# Altium integrated library CDE_Library.IntLib: 6171 symbols (part 1 of 25)
Pins are listed as number, name and electrical type; pins without a type are passive.

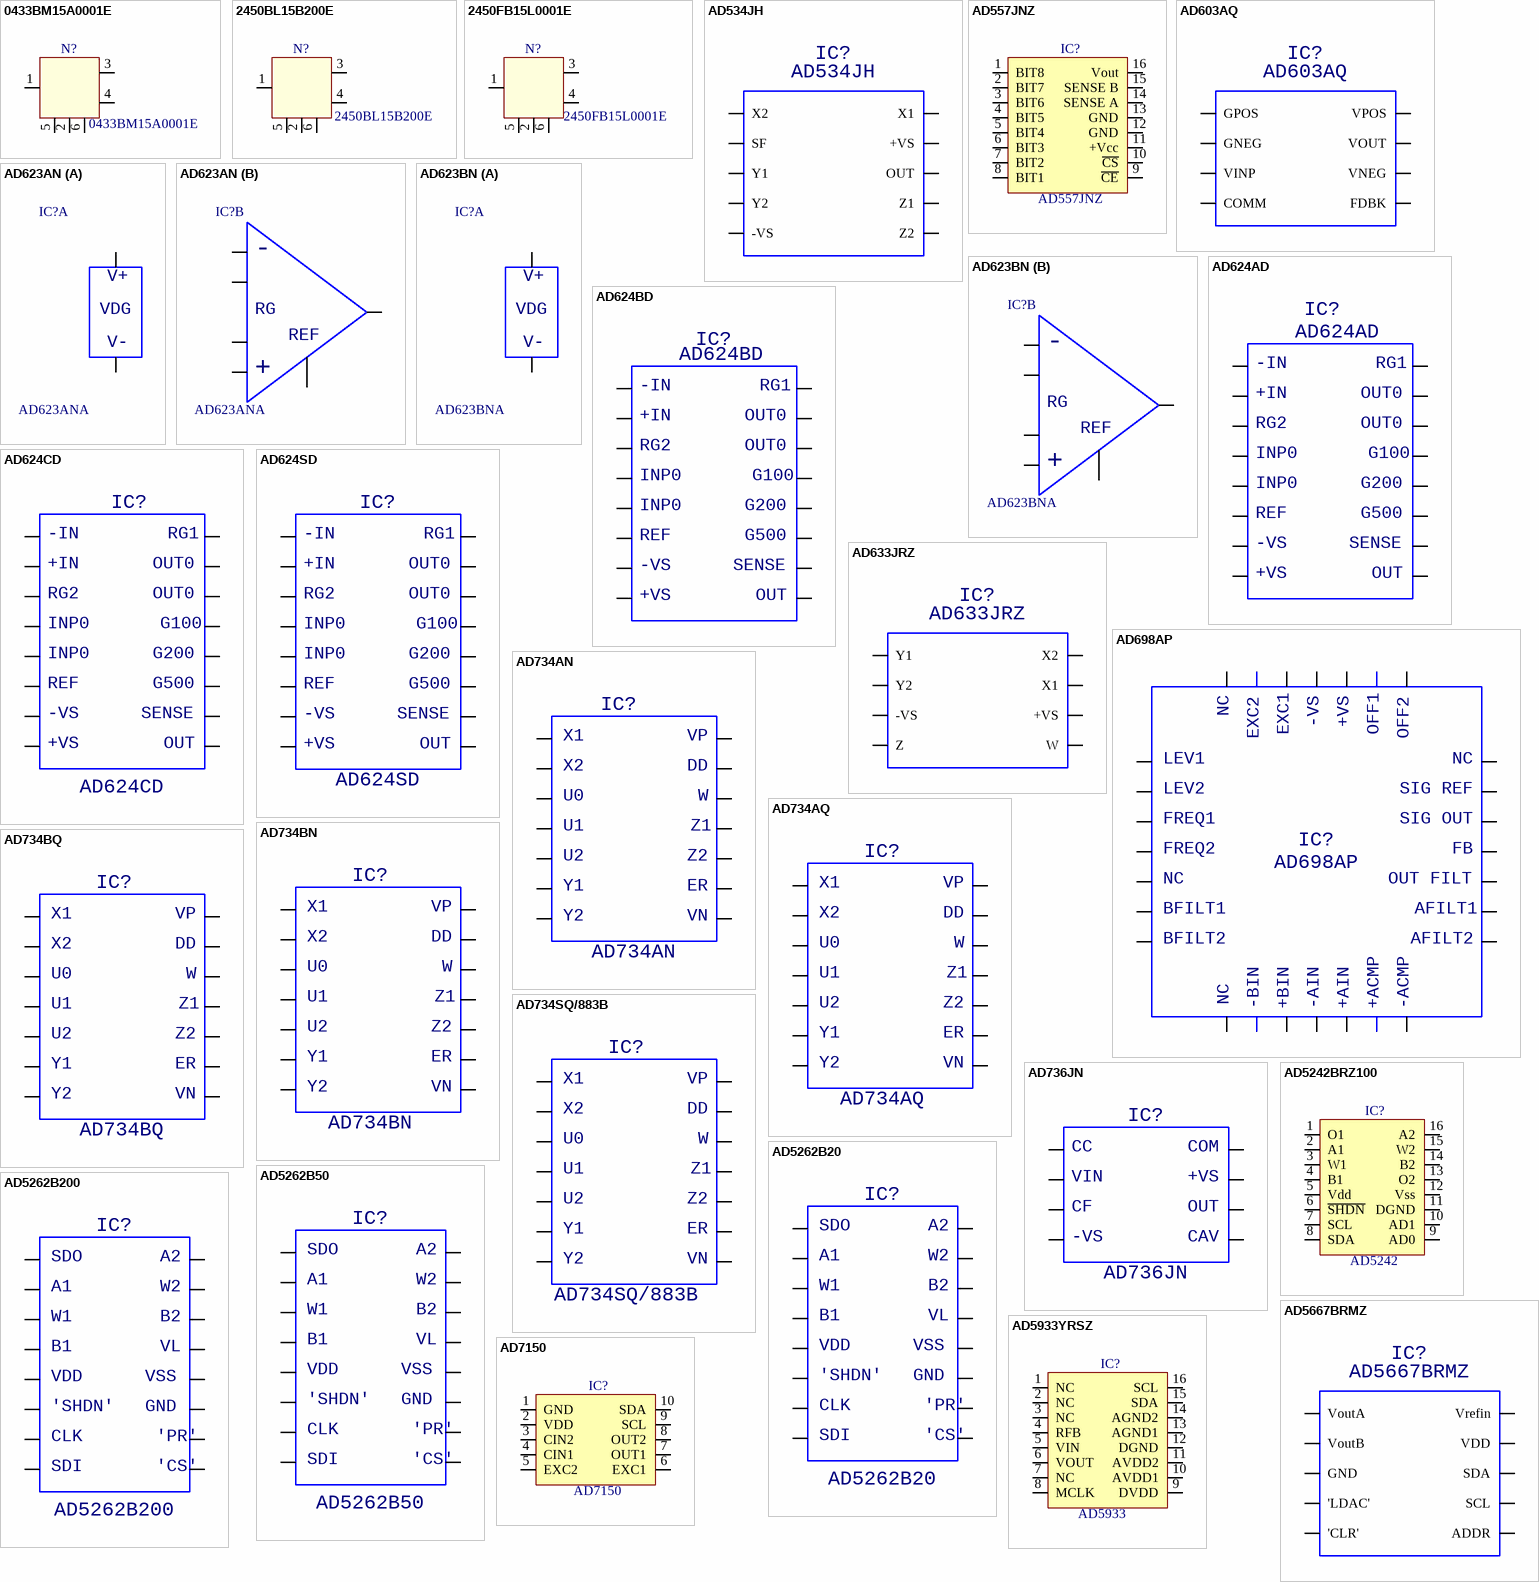
[diagram p0: symbols 0433BM15A0001E to AD7150]

## 0433BM15A0001E
designator N?
2.45 GHz Harmonic Filter-Balun
footprint 2450FB15L0001E (Balun Filter, 2.45GHZ)
pins: 1 Unbal, 2 DC+RF GND, 3 Bal1, 4 Bal2, 5 GND, 6 GND

## 2450BL15B200E
designator N?
2.45 GHz Harmonic Filter-Balun
footprint 2450FB15L0001E (Balun Filter, 2.45GHZ)
pins: 1 Unbal, 2 DC+RF GND, 3 Bal1, 4 Bal2, 5 GND, 6 GND

## 2450FB15L0001E
designator N?
2.45 GHz Harmonic Filter-Balun
footprint 2450FB15L0001E (Balun Filter, 2.45GHZ)
pins: 1 Unbal, 2 DC+RF GND, 3 Bal1, 4 Bal2, 5 GND, 6 GND

## AD534JH
designator IC?
internally trimmed precision IC multiplier
footprint TO-100
pins: 1 X2, 2 SF, 3 Y1, 4 Y2, 5 -VS, 6 Z2, 7 Z1, 8 OUT, 9 +VS, 10 X1

## AD557JNZ
designator IC?
8-bit DAC
footprint icv DIP16-300
pins: 1 BIT8, 2 BIT7, 3 BIT6, 4 BIT5, 5 BIT4, 6 BIT3, 7 BIT2, 8 BIT1, 9 ~{CE}, 10 ~{CS}, 11 +Vcc, 12 GND, 13 GND, 14 SENSE A, 15 SENSE B, 16 Vout

## AD603AQ
designator IC?
low noise 90MHz variable gain amplifier
footprint icv DIP8-300
pins: 1 GPOS, 2 GNEG, 3 VINP, 4 COMM, 5 FDBK, 6 VNEG, 7 VOUT, 8 VPOS

## AD623AN
designator IC?, comment AD623ANA
low cost instrumentation amp
footprint icv DIP8-300
part A pins: 4, 7
part B pins: 1, 2, 3, 5, 6, 8
part A text: V+; VDG; V-
part B text: -; RG; REF; +

## AD623BN
designator IC?, comment AD623BNA
low cost instrumentation amp
footprint icv DIP8-300
part A pins: 4, 7
part B pins: 1, 2, 3, 5, 6, 8
part A text: V+; VDG; V-
part B text: -; RG; REF; +

## AD624AD
designator IC?
precision instrumentation opamp
footprint icv DIP16-300
pins: 1, 2, 3, 4, 5, 6, 7, 8, 9, 10, 11, 12, 13, 14, 15, 16
text: -IN; RG1; +IN; OUT0; RG2; INP0; G100; G200; REF; G500; -VS; SENSE; +VS; OUT

## AD624BD
designator IC?
precision instrumentation opamp
footprint icv DIP16-300
pins: 1, 2, 3, 4, 5, 6, 7, 8, 9, 10, 11, 12, 13, 14, 15, 16
text: -IN; RG1; +IN; OUT0; RG2; INP0; G100; G200; REF; G500; -VS; SENSE; +VS; OUT

## AD624CD
designator IC?
precision instrumentation opamp
footprint icv DIP16-300
pins: 1, 2, 3, 4, 5, 6, 7, 8, 9, 10, 11, 12, 13, 14, 15, 16
text: -IN; RG1; +IN; OUT0; RG2; INP0; G100; G200; REF; G500; -VS; SENSE; +VS; OUT

## AD624SD
designator IC?
precision instrumentation opamp
footprint icv DIP16-300
pins: 1, 2, 3, 4, 5, 6, 7, 8, 9, 10, 11, 12, 13, 14, 15, 16
text: -IN; RG1; +IN; OUT0; RG2; INP0; G100; G200; REF; G500; -VS; SENSE; +VS; OUT

## AD633JRZ
designator IC?
low cost analog multiplier
footprint smd SOICN/8
pins: 1 Y1, 2 Y2, 3 -VS, 4 Z, 5 W, 6 +VS, 7 X1, 8 X2

## AD698AP
designator IC?
universal LVDT signal conditioner
footprint icv PLCC/.1/28
pins: 1, 2, 3, 4, 5, 6, 7, 8, 9, 10, 11, 12, 13, 14, 15, 16, 17, 18, 19, 20, 21, 22, 23, 24, 25, 26, 27, 28
text: NC; EXC1; -VS; +VS; OFF1; EXC2; OFF2; LEV1; LEV2; SIG REF; FREQ1; SIG OUT; FREQ2; FB; OUT FILT; BFILT1; AFILT1; BFILT2; AFILT2; -BIN; +BIN; -AIN; +AIN; +ACMP; -ACMP

## AD734AN
designator IC?
10 MHz, 4-quadrant multiplier/divider
footprint icv DIP14-300
pins: 1, 2, 3, 4, 5, 6, 7, 8, 9, 10, 11, 12, 13, 14
text: X1; VP; X2; DD; U0; W; U1; Z1; U2; Z2; Y1; ER; Y2; VN

## AD734AQ
designator IC?
10 MHz, 4-quadrant multiplier/divider
footprint icv DIP14-300
pins: 1, 2, 3, 4, 5, 6, 7, 8, 9, 10, 11, 12, 13, 14
text: X1; VP; X2; DD; U0; W; U1; Z1; U2; Z2; Y1; ER; Y2; VN

## AD734BN
designator IC?
10 MHz, 4-quadrant multiplier/divider
footprint icv DIP14-300
pins: 1, 2, 3, 4, 5, 6, 7, 8, 9, 10, 11, 12, 13, 14
text: X1; VP; X2; DD; U0; W; U1; Z1; U2; Z2; Y1; ER; Y2; VN

## AD734BQ
designator IC?
10 MHz, 4-quadrant multiplier/divider
footprint icv DIP14-300
pins: 1, 2, 3, 4, 5, 6, 7, 8, 9, 10, 11, 12, 13, 14
text: X1; VP; X2; DD; U0; W; U1; Z1; U2; Z2; Y1; ER; Y2; VN

## AD734SQ/883B
designator IC?
10 MHz, 4-quadrant multiplier/divider
footprint icv DIP14-300
pins: 1, 2, 3, 4, 5, 6, 7, 8, 9, 10, 11, 12, 13, 14
text: X1; VP; X2; DD; U0; W; U1; Z1; U2; Z2; Y1; ER; Y2; VN

## AD736JN
designator IC?
true RMS-to-DC converter
footprint icv DIP8-300
pins: 1, 2, 3, 4, 5, 6, 7, 8
text: CC; COM; VIN; +VS; CF; OUT; -VS; CAV

## AD5242BRZ100
designator IC?, comment AD5242
I2C-Compatible,  256-Position Digital Potentiometer
footprint smd soicn/16
pins: 1 O1, 2 A1, 3 W1, 4 B1, 5 Vdd, 6 ~{SHDN}, 7 SCL, 8 SDA, 9 AD0, 10 AD1, 11 DGND, 12 Vss, 13 O2, 14 B2, 15 W2, 16 A2

## AD5262B20
designator IC?
2-channel 15 V digital potentiometers
footprint smd TSSOP/16 (body 4.4 pitch 0.65)
pins: 1, 2, 3, 4, 5, 6, 7, 8, 9, 10, 11, 12, 13, 14, 15, 16
text: SDO; A2; A1; W2; W1; B2; B1; VL; VDD; VSS; 'SHDN'; GND; CLK; 'PR'; SDI; 'CS'

## AD5262B50
designator IC?
2-channel 15 V digital potentiometers
footprint smd TSSOP/16 (body 4.4 pitch 0.65)
pins: 1, 2, 3, 4, 5, 6, 7, 8, 9, 10, 11, 12, 13, 14, 15, 16
text: SDO; A2; A1; W2; W1; B2; B1; VL; VDD; VSS; 'SHDN'; GND; CLK; 'PR'; SDI; 'CS'

## AD5262B200
designator IC?
2-channel 15 V digital potentiometers
footprint smd TSSOP/16 (body 4.4 pitch 0.65)
pins: 1, 2, 3, 4, 5, 6, 7, 8, 9, 10, 11, 12, 13, 14, 15, 16
text: SDO; A2; A1; W2; W1; B2; B1; VL; VDD; VSS; 'SHDN'; GND; CLK; 'PR'; SDI; 'CS'

## AD5667BRMZ
designator IC?
Dual DAC with I2C interface
footprint smd MSOP/10
pins: 1 VoutA, 2 VoutB, 3 GND, 4 'LDAC', 5 'CLR', 6 ADDR, 7 SCL, 8 SDA, 9 VDD, 10 Vrefin

## AD5933YRSZ
designator IC?, comment AD5933
1 MSPS, 12-Bit Impedance  Converter, Network Analyzer
footprint smd SSOP/16 (body 5.3 pitch 0.65)
pins: 1 NC, 2 NC, 3 NC, 4 RFB, 5 VIN, 6 VOUT, 7 NC, 8 MCLK, 9 DVDD, 10 AVDD1, 11 AVDD2, 12 DGND, 13 AGND1, 14 AGND2, 15 SDA, 16 SCL

## AD7150
designator IC?
Ultra-Low Power, 2-Channel, Capacitance Converter for Proximity Sensing
footprint smd MSOP/10
pins: 1 GND, 2 VDD, 3 CIN2, 4 CIN1, 5 EXC2, 6 EXC1, 7 OUT1, 8 OUT2, 9 SCL, 10 SDA

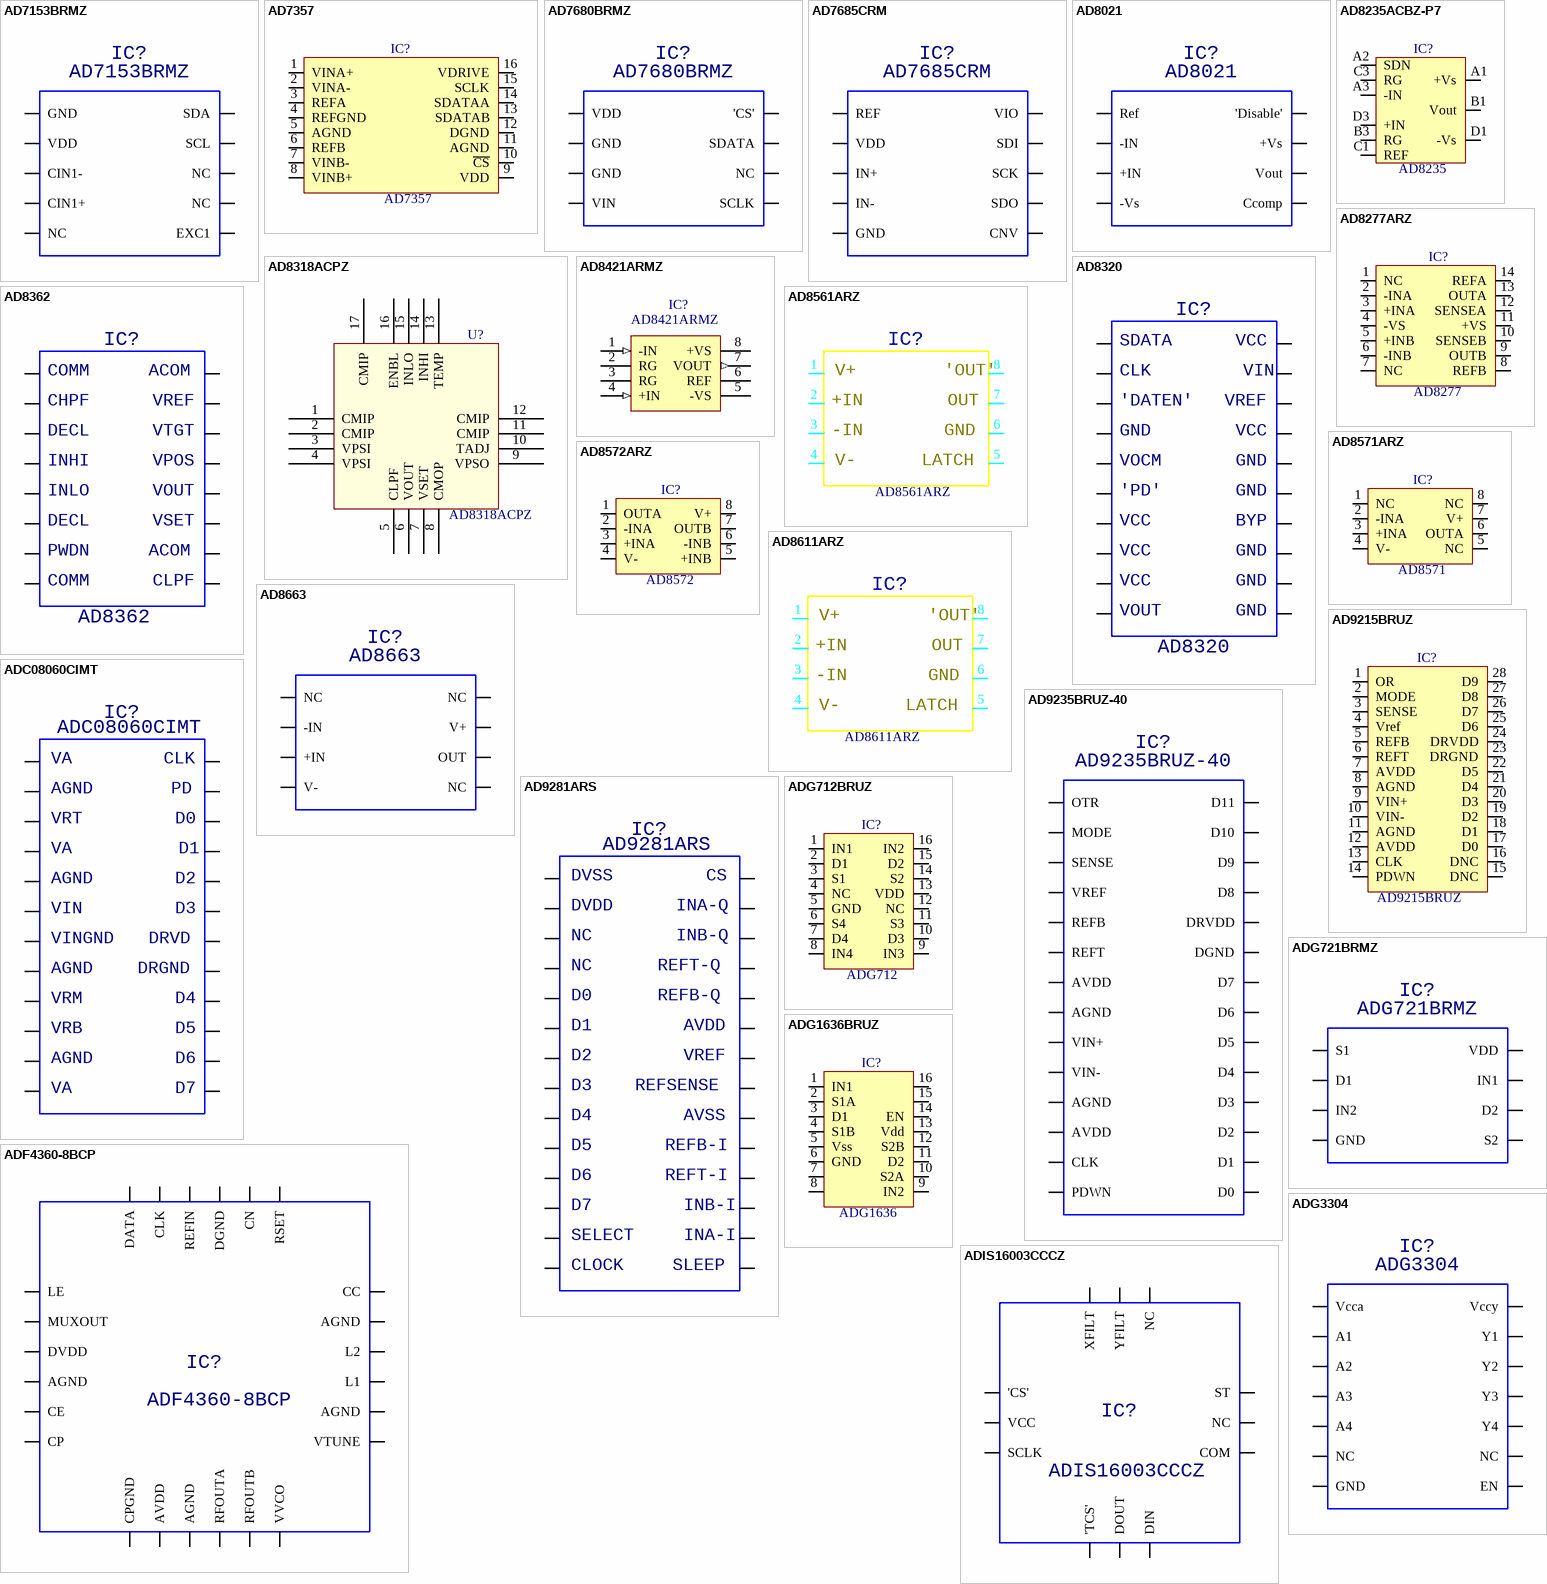
[diagram p1: symbols AD7153BRMZ to ADIS16003CCCZ]

## AD7153BRMZ
designator IC?
12-Bit Capacitance-to-Digital Converter
footprint smd MSOP/10
pins: 1 GND, 2 VDD, 3 CIN1-, 4 CIN1+, 5 NC, 6 EXC1, 7 NC, 8 NC, 9 SCL, 10 SDA

## AD7357
designator IC?
Differential Input, Dual, Simultaneous  Sampling, 4.2 MSPS, 14-Bit, SAR ADC
footprint smd TSSOP/16 (body 4.4 pitch 0.65)
pins: 1 VINA+, 2 VINA-, 3 REFA, 4 REFGND, 5 AGND, 6 REFB, 7 VINB-, 8 VINB+, 9 VDD, 10 ~{CS}, 11 AGND, 12 DGND, 13 SDATAB, 14 SDATAA, 15 SCLK, 16 VDRIVE

## AD7680BRMZ
designator IC?
3 mW, 100 Ksps, 16-bit ADC
footprint smd MSOP/8
pins: 1 VDD, 2 GND, 3 GND, 4 VIN, 5 SCLK, 6 NC, 7 SDATA, 8 'CS'

## AD7685CRM
designator IC?
16-bit, 250kSPS PulSAR ADC
footprint smd MSOP/10
pins: 1 REF, 2 VDD, 3 IN+, 4 IN-, 5 GND, 6 CNV, 7 SDO, 8 SCK, 9 SDI, 10 VIO

## AD8021
designator IC?
low noise, high speed amplifier
footprint smd SOICN/8
pins: 1 Ref, 2 -IN, 3 +IN, 4 -Vs, 5 Ccomp, 6 Vout, 7 +Vs, 8 'Disable'

## AD8235ACBZ-P7
designator IC?, comment AD8235
40 µA Micropower Instrumentation  Amplifier in WLCSP Package
footprint smd WLCSP/11
pins: A1 +Vs, A2 SDN, A3 -IN, B1 Vout, B3 RG, C1 REF, C3 RG, D1 -Vs, D3 +IN

## AD8277ARZ
designator IC?, comment AD8277
Low Power, Wide Supply Range, Low Cost  Unity-Gain Difference Amplifier
footprint smd soicn/14
pins: 1 NC, 2 -INA, 3 +INA, 4 -VS, 5 +INB, 6 -INB, 7 NC, 8 REFB, 9 OUTB, 10 SENSEB, 11 +VS, 12 SENSEA, 13 OUTA, 14 REFA

## AD8318ACPZ
designator U?
Logarithmic Detector/Controller
footprint SMD LFCSP_VQ/16 (3x3mm)
pins: 1 CMIP, 2 CMIP, 3 VPSI, 4 VPSI, 5 CLPF, 6 VOUT, 7 VSET, 8 CMOP, 9 VPSO, 10 TADJ, 11 CMIP, 12 CMIP, 13 TEMP, 14 INHI, 15 INLO, 16 ENBL, 17 CMIP

## AD8320
designator IC?
serial digital controlled variable gain line driver
footprint smd SOICW/20
pins: 1, 2, 3, 4, 5, 6, 7, 8, 9, 10, 11, 12, 13, 14, 15, 16, 17, 18, 19, 20
text: SDATA; VCC; CLK; VIN; 'DATEN'; VREF; GND; VOCM; 'PD'; BYP; VOUT

## AD8362
designator IC?
50Hz to 2.7GHz 60dB TruPwr detector
footprint smd TSSOP/16 (body 4.4 pitch 0.65)
pins: 1, 2, 3, 4, 5, 6, 7, 8, 9, 10, 11, 12, 13, 14, 15, 16
text: COMM; ACOM; CHPF; VREF; DECL; VTGT; INHI; VPOS; INLO; VOUT; VSET; PWDN; CLPF

## AD8421ARMZ
designator IC?
3 nV/vHz, Low Power Instrumentation Amplifier
footprint smd MSOP/8
pins: 1 -IN (in), 2 RG, 3 RG, 4 +IN (in), 5 -VS (power), 6 REF, 7 VOUT (out), 8 +VS (power)

## AD8561ARZ
designator IC?
Comparator, single supply, 7ns
footprint smd SOICN/8
pins: 1, 2, 3, 4, 5, 6, 7, 8
text: V+; 'OUT'; +IN; OUT; -IN; GND; V-; LATCH

## AD8571ARZ
designator IC?, comment AD8571
Zero-Drift, Single-Supply, Rail-to-Rail  Input/Output Operational Amplifiers
footprint smd soicn/8
pins: 1 NC, 2 -INA, 3 +INA, 4 V-, 5 NC, 6 OUTA, 7 V+, 8 NC

## AD8572ARZ
designator IC?, comment AD8572
Zero-Drift, Single-Supply, Rail-to-Rail  Input/Output Operational Amplifiers
footprint smd soicn/8
pins: 1 OUTA, 2 -INA, 3 +INA, 4 V-, 5 +INB, 6 -INB, 7 OUTB, 8 V+

## AD8611ARZ
designator IC?
Comparator, single supply, 7ns
footprint smd SOICN/8
pins: 1, 2, 3, 4, 5, 6, 7, 8
text: V+; 'OUT'; +IN; OUT; -IN; GND; V-; LATCH

## AD8663
designator IC?
low noise, precision, rail-to-rail amplifier
footprint smd SOICN/8
pins: 1 NC, 2 -IN, 3 +IN, 4 V-, 5 NC, 6 OUT, 7 V+, 8 NC

## AD9215BRUZ
designator IC?
10-Bit, 65/80/105 MSPS,  3 V A/D Converter
footprint smd TSSOP/28 (body 4.4 pitch 0.65)
pins: 1 OR, 2 MODE, 3 SENSE, 4 Vref, 5 REFB, 6 REFT, 7 AVDD, 8 AGND, 9 VIN+, 10 VIN-, 11 AGND, 12 AVDD, 13 CLK, 14 PDWN, 15 DNC, 16 DNC, 17 D0, 18 D1, 19 D2, 20 D3, 21 D4, 22 D5, 23 DRGND, 24 DRVDD, 25 D6, 26 D7, 27 D8, 28 D9

## AD9235BRUZ-40
designator IC?
12-Bit, 20/40/65 MSPS 3 V A/D Converter
footprint smd TSSOP/28 (body 4.4 pitch 0.65)
pins: 1 OTR, 2 MODE, 3 SENSE, 4 VREF, 5 REFB, 6 REFT, 7 AVDD, 8 AGND, 9 VIN+, 10 VIN-, 11 AGND, 12 AVDD, 13 CLK, 14 PDWN, 15 D0, 16 D1, 17 D2, 18 D3, 19 D4, 20 D5, 21 D6, 22 D7, 23 DGND, 24 DRVDD, 25 D8, 26 D9, 27 D10, 28 D11

## AD9281ARS
designator IC?
dual channel 8-bit resolution cmos ADC
footprint smd SSOP/28 (body 5.3 pitch 0.65)
pins: 1, 2, 3, 4, 5, 6, 7, 8, 9, 10, 11, 12, 13, 14, 15, 16, 17, 18, 19, 20, 21, 22, 23, 24, 25, 26, 27, 28
text: DVSS; CS; DVDD; INA-Q; NC; INB-Q; REFT-Q; D0; REFB-Q; D1; AVDD; D2; VREF; D3; REFSENSE; D4; AVSS; D5; REFB-I; D6; REFT-I; D7; INB-I; SELECT; INA-I; CLOCK; SLEEP

## ADC08060CIMT
designator IC?
A/D Converter, 8-Bit, 20 MSPS to 60 MSPS, 1.3 mW/MSPS
footprint smd TSSOP/24 (body 4.4 pitch 0.65)
pins: 1, 2, 3, 4, 5, 6, 7, 8, 9, 10, 11, 12, 13, 14, 15, 16, 17, 18, 19, 20, 21, 22, 23, 24
text: VA; CLK; AGND; PD; VRT; D0; D1; D2; VIN; D3; VINGND; DRVD; DRGND; VRM; D4; VRB; D5; D6; D7

## ADF4360-8BCP
designator IC?
Integrated Synthesizer and VCO
footprint smd VQ_LFCSP/24
pins: 1 CPGND, 2 AVDD, 3 AGND, 4 RFOUTA, 5 RFOUTB, 6 VVCO, 7 VTUNE, 8 AGND, 9 L1, 10 L2, 11 AGND, 12 CC, 13 RSET, 14 CN, 15 DGND, 16 REFIN, 17 CLK, 18 DATA, 19 LE, 20 MUXOUT, 21 DVDD, 22 AGND, 23 CE, 24 CP

## ADG712BRUZ
designator IC?, comment ADG712
CMOS Low Voltage, 4 O Quad,  SPST Switches
footprint smd TSSOP/16 (body 4.4 pitch 0.65)
pins: 1 IN1, 2 D1, 3 S1, 4 NC, 5 GND, 6 S4, 7 D4, 8 IN4, 9 IN3, 10 D3, 11 S3, 12 NC, 13 VDD, 14 S2, 15 D2, 16 IN2

## ADG721BRMZ
designator IC?
cmos low voltage 4ohm dual spst switches
footprint smd MSOP/8
pins: 1 S1, 2 D1, 3 IN2, 4 GND, 5 S2, 6 D2, 7 IN1, 8 VDD

## ADG1636BRUZ
designator IC?, comment ADG1636
1 O Typical On Resistance, ±5 V, +12 V, +5 V, and +3.3 V Dual SPDT Switches
footprint smd TSSOP/16 (body 4.4 pitch 0.65)
pins: 1 IN1, 2 S1A, 3 D1, 4 S1B, 5 Vss, 6 GND, 7, 8, 9 IN2, 10 S2A, 11 D2, 12 S2B, 13 Vdd, 14 EN, 15, 16

## ADG3304
designator IC?
Level translator
footprint smd TSSOP/14 (body 4.4 pitch 0.65)
pins: 1 Vcca, 2 A1, 3 A2, 4 A3, 5 A4, 6 NC, 7 GND, 8 EN, 9 NC, 10 Y4, 11 Y3, 12 Y2, 13 Y1, 14 Vccy

## ADIS16003CCCZ
designator IC?
Dual-Axis ±1.7 g Accelerometer with SPI Interface
footprint smd LGA/12 (Analog)
pins: 1 'TCS', 2 DOUT, 3 DIN, 4 COM, 5 NC, 6 ST, 7 NC, 8 YFILT, 9 XFILT, 10 'CS', 11 VCC, 12 SCLK

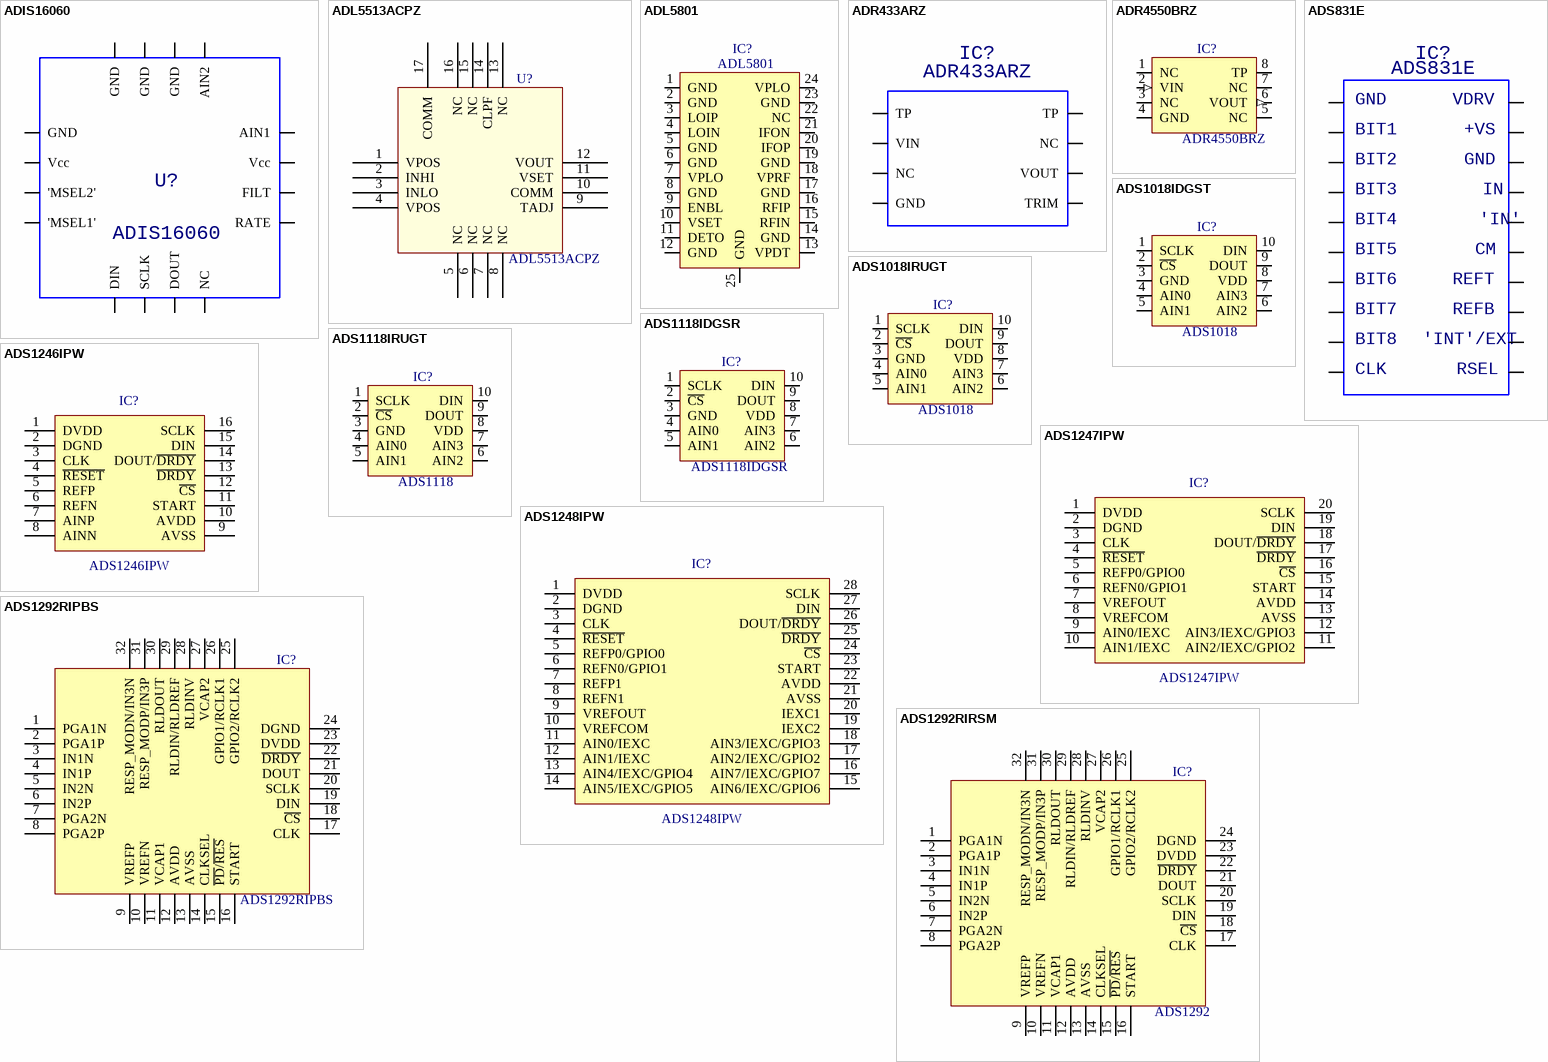
[diagram p2: symbols ADIS16060 to ADS1292RIRSM]

## ADIS16060
designator U?
Yaw Rate Gyroscope with SPI Interface
footprint smd LGA/16 (Analog)
pins: 1 DIN, 2 SCLK, 3 DOUT, 4 NC, 5 RATE, 6 FILT, 7 Vcc, 8 AIN1, 9 AIN2, 10 GND, 11 GND, 12 GND, 13 GND, 14 Vcc, 15 'MSEL2', 16 'MSEL1'

## ADL5513ACPZ
designator U?
Logarithmic Detector/Controller
footprint SMD LFCSP_VQ/16 (3x3mm)
pins: 1 VPOS, 2 INHI, 3 INLO, 4 VPOS, 5 NC, 6 NC, 7 NC, 8 NC, 9 TADJ, 10 COMM, 11 VSET, 12 VOUT, 13 NC, 14 CLPF, 15 NC, 16 NC, 17 COMM

## ADL5801
designator IC?
High IP3,  10 MHz to 6 GHz, Active Mixer
footprint smd VQ_LFCSP/24
pins: 1 GND, 2 GND, 3 LOIP, 4 LOIN, 5 GND, 6 GND, 7 VPLO, 8 GND, 9 ENBL, 10 VSET, 11 DETO, 12 GND, 13 VPDT, 14 GND, 15 RFIN, 16 RFIP, 17 GND, 18 VPRF, 19 GND, 20 IFOP, 21 IFON, 22 NC, 23 GND, 24 VPLO, 25 GND

## ADR433ARZ
designator IC?
ultralow noise XFET voltage reference
footprint smd SOICN/8
pins: 1 TP, 2 VIN, 3 NC, 4 GND, 5 TRIM, 6 VOUT, 7 NC, 8 TP

## ADR4550BRZ
designator IC?
Ultralow Noise High Accuracy Voltage Reference
footprint smd soicn/8
pins: 1 NC, 2 VIN (in), 3 NC, 4 GND (power), 5 NC, 6 VOUT (out), 7 NC, 8 TP

## ADS831E
designator IC?
8-bit 80MHz sampling A/D converter
footprint smd SSOP/20 (body 5.3 pitch 0.65)
pins: 1, 2, 3, 4, 5, 6, 7, 8, 9, 10, 11, 12, 13, 14, 15, 16, 17, 18, 19, 20
text: GND; VDRV; BIT1; +VS; BIT2; BIT3; IN; BIT4; 'IN'; BIT5; CM; BIT6; REFT; BIT7; REFB; BIT8; 'INT'/EXT; CLK; RSEL

## ADS1018IDGST
designator IC?, comment ADS1018
Ultra-Small, Low-Power, SPI™-Compatible, 12-Bit,  Analog-to-Digital Converter and Temperature Sensor with Internal Reference
footprint TSSOP10
pins: 1 SCLK, 2 ~{CS}, 3 GND, 4 AIN0, 5 AIN1, 6 AIN2, 7 AIN3, 8 VDD, 9 DOUT, 10 DIN

## ADS1018IRUGT
designator IC?, comment ADS1018
Ultra-Small, Low-Power, SPI™-Compatible, 12-Bit,  Analog-to-Digital Converter and Temperature Sensor with Internal Reference
footprint smd qfn/10
pins: 1 SCLK, 2 ~{CS}, 3 GND, 4 AIN0, 5 AIN1, 6 AIN2, 7 AIN3, 8 VDD, 9 DOUT, 10 DIN

## ADS1118IDGSR
designator IC?
Ultra-Small, Low-Power, SPI-Compatible, 16-Bit  Analog-to-Digital Converter
footprint smd MSOP/10
pins: 1 SCLK, 2 ~{CS}, 3 GND, 4 AIN0, 5 AIN1, 6 AIN2, 7 AIN3, 8 VDD, 9 DOUT, 10 DIN

## ADS1118IRUGT
designator IC?, comment ADS1118
Ultra-Small, Low-Power, SPI™-Compatible, 12-Bit,  Analog-to-Digital Converter and Temperature Sensor with Internal Reference
footprint smd qfn/10
pins: 1 SCLK, 2 ~{CS}, 3 GND, 4 AIN0, 5 AIN1, 6 AIN2, 7 AIN3, 8 VDD, 9 DOUT, 10 DIN

## ADS1246IPW
designator IC?
24-Bit ADC for Temperature Sensors
footprint smd TSSOP/16 (body 4.4 pitch 0.65)
pins: 1 DVDD, 2 DGND, 3 CLK, 4 ~{RESET}, 5 REFP, 6 REFN, 7 AINP, 8 AINN, 9 AVSS, 10 AVDD, 11 START, 12 ~{CS}, 13 ~{DRDY}, 14 DOUT/~{DRDY}, 15 DIN, 16 SCLK

## ADS1247IPW
designator IC?
24-Bit ADC for Temperature Sensors
footprint smd TSSOP/20 (body 4.4 pitch 0.65)
pins: 1 DVDD, 2 DGND, 3 CLK, 4 ~{RESET}, 5 REFP0/GPIO0, 6 REFN0/GPIO1, 7 VREFOUT, 8 VREFCOM, 9 AIN0/IEXC, 10 AIN1/IEXC, 11 AIN2/IEXC/GPIO2, 12 AIN3/IEXC/GPIO3, 13 AVSS, 14 AVDD, 15 START, 16 ~{CS}, 17 ~{DRDY}, 18 DOUT/~{DRDY}, 19 DIN, 20 SCLK

## ADS1248IPW
designator IC?
24-Bit ADC for Temperature Sensors
footprint smd TSSOP/28 (body 4.4 pitch 0.65)
pins: 1 DVDD, 2 DGND, 3 CLK, 4 ~{RESET}, 5 REFP0/GPIO0, 6 REFN0/GPIO1, 7 REFP1, 8 REFN1, 9 VREFOUT, 10 VREFCOM, 11 AIN0/IEXC, 12 AIN1/IEXC, 13 AIN4/IEXC/GPIO4, 14 AIN5/IEXC/GPIO5, 15 AIN6/IEXC/GPIO6, 16 AIN7/IEXC/GPIO7, 17 AIN2/IEXC/GPIO2, 18 AIN3/IEXC/GPIO3, 19 IEXC2, 20 IEXC1, 21 AVSS, 22 AVDD, 23 START, 24 ~{CS}, 25 ~{DRDY}, 26 DOUT/~{DRDY}, 27 DIN, 28 SCLK

## ADS1292RIPBS
designator IC?
footprint smd TQFP/32 (5x5mm p0.5mm)
pins: 1 PGA1N, 2 PGA1P, 3 IN1N, 4 IN1P, 5 IN2N, 6 IN2P, 7 PGA2N, 8 PGA2P, 9 VREFP, 10 VREFN, 11 VCAP1, 12 AVDD, 13 AVSS, 14 CLKSEL, 15 ~{PD}/~{RES}, 16 START, 17 CLK, 18 ~{CS}, 19 DIN, 20 SCLK, 21 DOUT, 22 ~{DRDY}, 23 DVDD, 24 DGND, 25 GPIO2/RCLK2, 26 GPIO1/RCLK1, 27 VCAP2, 28 RLDINV, 29 RLDIN/RLDREF, 30 RLDOUT, 31 RESP_MODP/IN3P, 32 RESP_MODN/IN3N

## ADS1292RIRSM
designator IC?, comment ADS1292
footprint smd QFN/32 (4x4MM)
pins: 1 PGA1N, 2 PGA1P, 3 IN1N, 4 IN1P, 5 IN2N, 6 IN2P, 7 PGA2N, 8 PGA2P, 9 VREFP, 10 VREFN, 11 VCAP1, 12 AVDD, 13 AVSS, 14 CLKSEL, 15 ~{PD}/~{RES}, 16 START, 17 CLK, 18 ~{CS}, 19 DIN, 20 SCLK, 21 DOUT, 22 ~{DRDY}, 23 DVDD, 24 DGND, 25 GPIO2/RCLK2, 26 GPIO1/RCLK1, 27 VCAP2, 28 RLDINV, 29 RLDIN/RLDREF, 30 RLDOUT, 31 RESP_MODP/IN3P, 32 RESP_MODN/IN3N

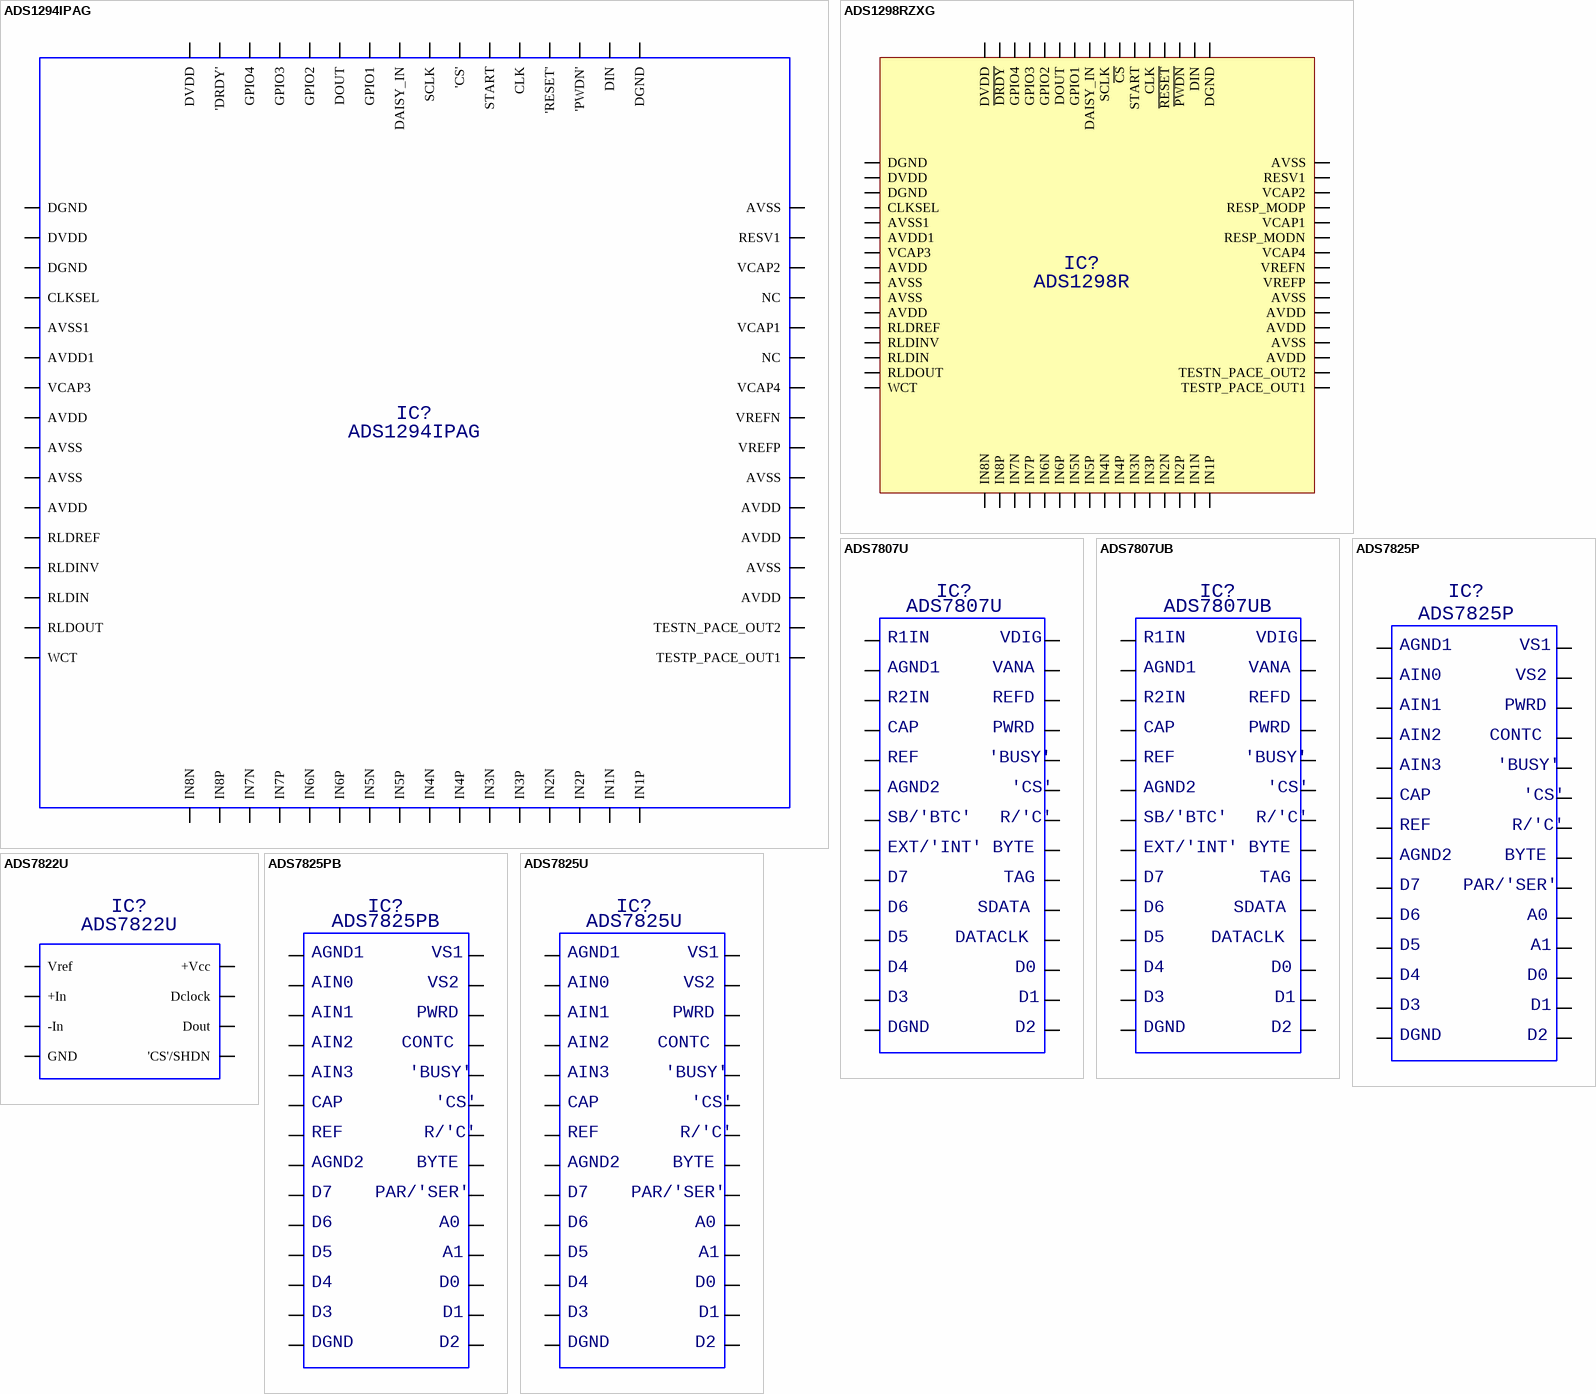
[diagram p3: symbols ADS1294IPAG to ADS7825U]

## ADS1294IPAG
designator IC?
4-Channel, 24-Bit ADC With Integrated ECG Front End
footprint smd TQFP/64
pins: 1 IN8N, 2 IN8P, 3 IN7N, 4 IN7P, 5 IN6N, 6 IN6P, 7 IN5N, 8 IN5P, 9 IN4N, 10 IN4P, 11 IN3N, 12 IN3P, 13 IN2N, 14 IN2P, 15 IN1N, 16 IN1P, 17 TESTP_PACE_OUT1, 18 TESTN_PACE_OUT2, 19 AVDD, 20 AVSS, 21 AVDD, 22 AVDD, 23 AVSS, 24 VREFP, 25 VREFN, 26 VCAP4, 27 NC, 28 VCAP1, 29 NC, 30 VCAP2, 31 RESV1, 32 AVSS, 33 DGND, 34 DIN, 35 'PWDN', 36 'RESET', 37 CLK, 38 START, 39 'CS', 40 SCLK, 41 DAISY_IN, 42 GPIO1, 43 DOUT, 44 GPIO2, 45 GPIO3, 46 GPIO4, 47 'DRDY', 48 DVDD, 49 DGND, 50 DVDD, 51 DGND, 52 CLKSEL, 53 AVSS1, 54 AVDD1, 55 VCAP3, 56 AVDD, 57 AVSS, 58 AVSS, 59 AVDD, 60 RLDREF, 61 RLDINV, 62 RLDIN, 63 RLDOUT, 64 WCT

## ADS1298RZXG
designator IC?, comment ADS1298R
4-Channel, 24-Bit ADC With Integrated ECG Front End
footprint SMD BGA64x8
pins: 1A IN8P, 1B IN7P, 1C IN6P, 1D IN5P, 1E IN4P, 1F IN3P, 1G IN2P, 1H IN1P, 2A IN8N, 2B IN7N, 2C IN6N, 2D IN5N, 2E IN4N, 2F IN3N, 2G IN2N, 2H IN1N, 3A RLDIN, 3B RLDOUT, 3C RLDINV, 3D WCT, 3E TESTP_PACE_OUT1, 3F TESTN_PACE_OUT2, 3G VCAP4, 3H VREFP, 4A AVDD, 4B AVDD, 4C RLDREF, 4D AVSS, 4E RESV1, 4F RESP_MODN, 4G RESP_MODP, 4H VREFN, 5A AVSS, 5B AVSS, 5C AVSS, 5D AVSS, 5E GPIO4, 5F GPIO1, 5G ~{PWDN}, 5H VCAP1, 6A AVDD, 6B AVDD, 6C AVDD, 6D ~{DRDY}, 6E GPIO3, 6F DAISY_IN, 6G ~{RESET}, 6H VCAP2, 7A AVDD1, 7B VCAP3, 7C DGND, 7D DGND, 7E GPIO2, 7F ~{CS}, 7G START, 7H DGND, 8A AVSS1, 8B CLKSEL, 8C DVDD, 8D DVDD, 8E DOUT, 8F SCLK, 8G CLK, 8H DIN

## ADS7807U
designator IC?
low-power 16-bit sampling cmos A/D converter
footprint smd SOICW/28
pins: 1, 2, 3, 4, 5, 6, 7, 8, 9, 10, 11, 12, 13, 14, 15, 16, 17, 18, 19, 20, 21, 22, 23, 24, 25, 26, 27, 28
text: R1IN; VDIG; AGND1; VANA; R2IN; REFD; CAP; PWRD; REF; 'BUSY'; AGND2; 'CS'; SB/'BTC'; R/'C'; EXT/'INT'; BYTE; D7; TAG; D6; SDATA; D5; DATACLK; D4; D0; D3; D1; DGND; D2

## ADS7807UB
designator IC?
low-power 16-bit sampling cmos A/D converter
footprint smd SOICW/28
pins: 1, 2, 3, 4, 5, 6, 7, 8, 9, 10, 11, 12, 13, 14, 15, 16, 17, 18, 19, 20, 21, 22, 23, 24, 25, 26, 27, 28
text: R1IN; VDIG; AGND1; VANA; R2IN; REFD; CAP; PWRD; REF; 'BUSY'; AGND2; 'CS'; SB/'BTC'; R/'C'; EXT/'INT'; BYTE; D7; TAG; D6; SDATA; D5; DATACLK; D4; D0; D3; D1; DGND; D2

## ADS7822U
designator IC?
12-bit serial ADC, Micropower
footprint smd SOICN/8
pins: 1 Vref, 2 +In, 3 -In, 4 GND, 5 'CS'/SHDN, 6 Dout, 7 Dclock, 8 +Vcc

## ADS7825P
designator IC?
4 channel 16-bit sampling cmos A/D converter
footprint icv DIP28-300
pins: 1, 2, 3, 4, 5, 6, 7, 8, 9, 10, 11, 12, 13, 14, 15, 16, 17, 18, 19, 20, 21, 22, 23, 24, 25, 26, 27, 28
text: AGND1; VS1; AIN0; VS2; AIN1; PWRD; AIN2; CONTC; AIN3; 'BUSY'; CAP; 'CS'; REF; R/'C'; AGND2; BYTE; D7; PAR/'SER'; D6; A0; D5; A1; D4; D0; D3; D1; DGND; D2

## ADS7825PB
designator IC?
4 channel 16-bit sampling cmos A/D converter
footprint icv DIP28-300
pins: 1, 2, 3, 4, 5, 6, 7, 8, 9, 10, 11, 12, 13, 14, 15, 16, 17, 18, 19, 20, 21, 22, 23, 24, 25, 26, 27, 28
text: AGND1; VS1; AIN0; VS2; AIN1; PWRD; AIN2; CONTC; AIN3; 'BUSY'; CAP; 'CS'; REF; R/'C'; AGND2; BYTE; D7; PAR/'SER'; D6; A0; D5; A1; D4; D0; D3; D1; DGND; D2

## ADS7825U
designator IC?
4 channel 16-bit sampling cmos A/D converter
footprint smd SOICW/28
pins: 1, 2, 3, 4, 5, 6, 7, 8, 9, 10, 11, 12, 13, 14, 15, 16, 17, 18, 19, 20, 21, 22, 23, 24, 25, 26, 27, 28
text: AGND1; VS1; AIN0; VS2; AIN1; PWRD; AIN2; CONTC; AIN3; 'BUSY'; CAP; 'CS'; REF; R/'C'; AGND2; BYTE; D7; PAR/'SER'; D6; A0; D5; A1; D4; D0; D3; D1; DGND; D2

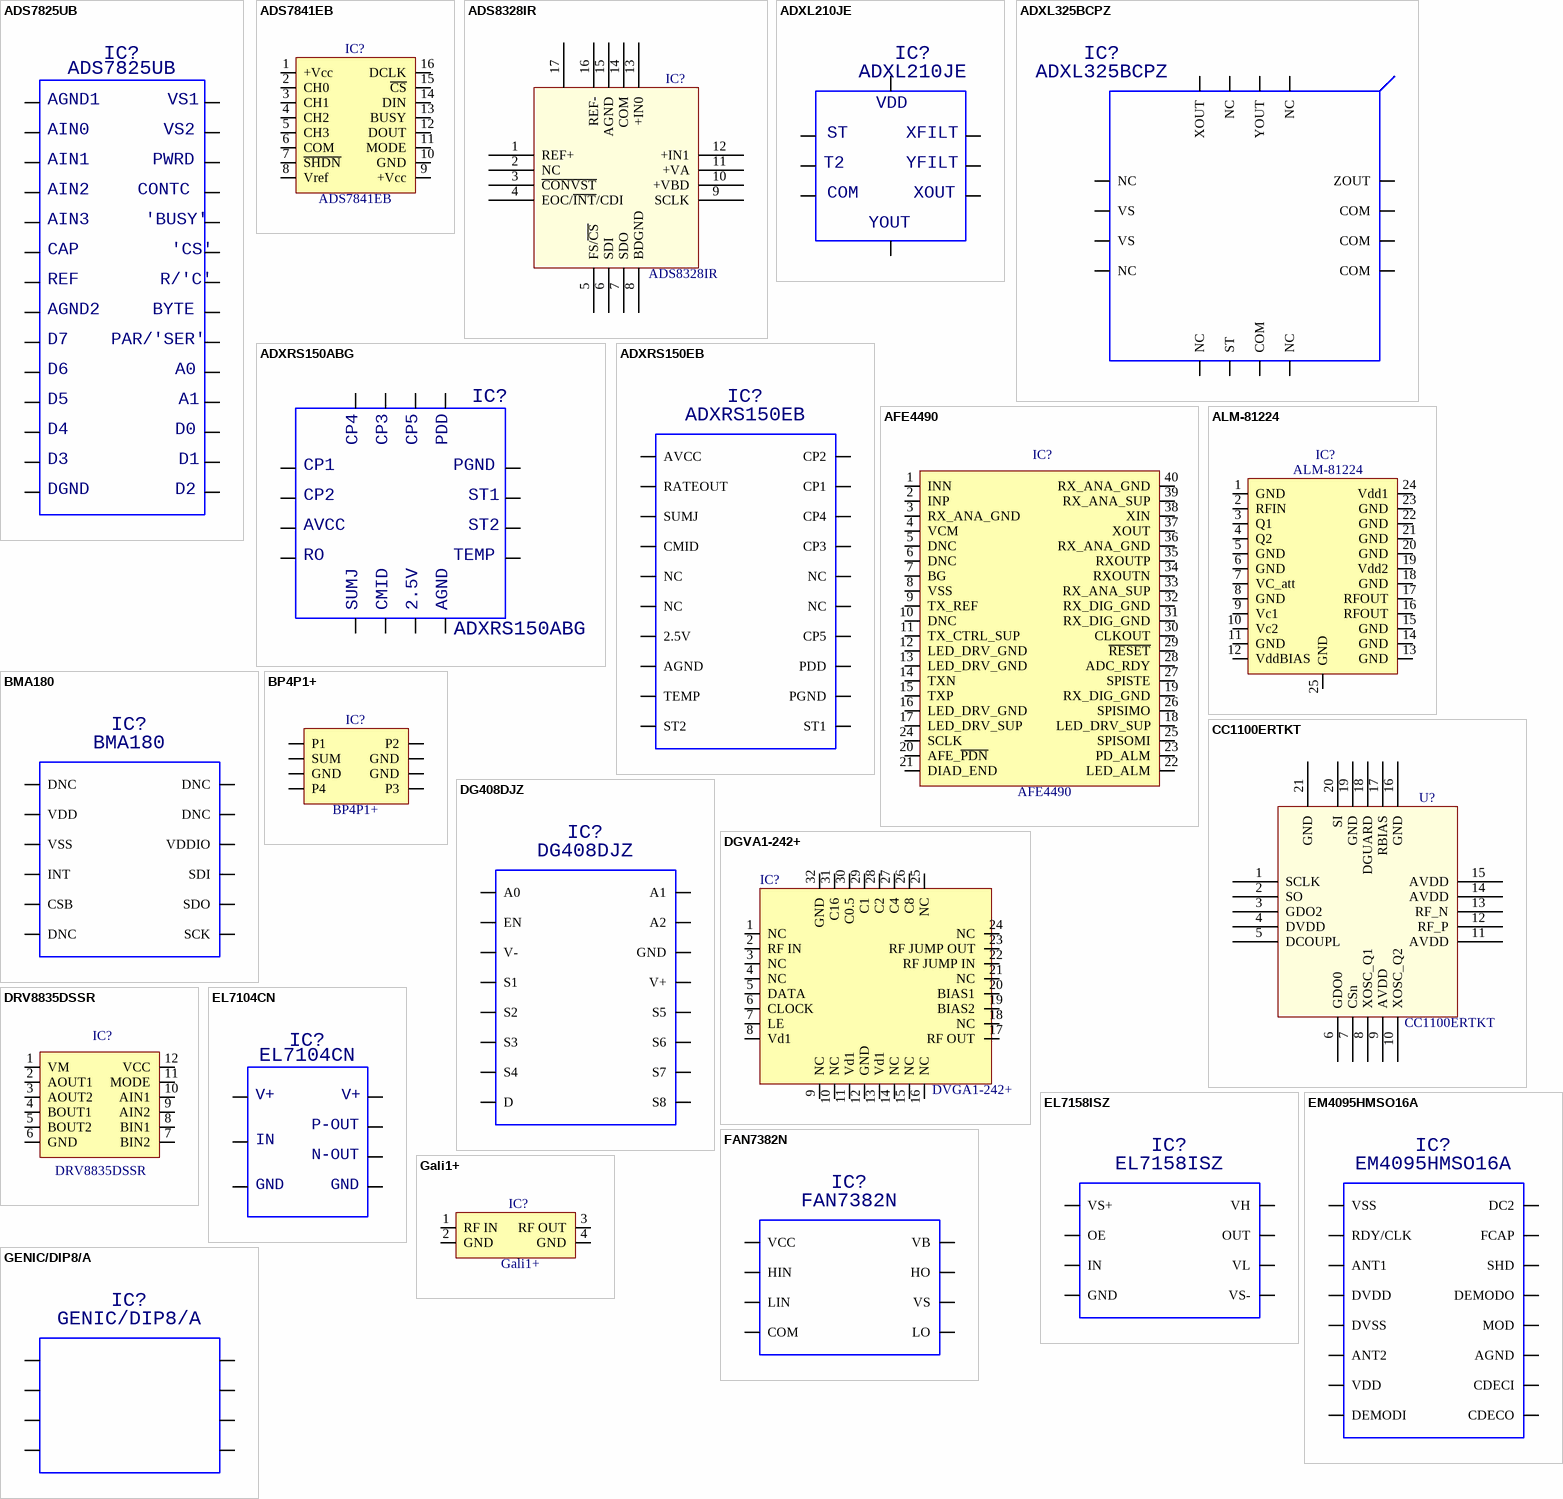
[diagram p4: symbols ADS7825UB to GENIC/DIP8/A]

## ADS7825UB
designator IC?
4 channel 16-bit sampling cmos A/D converter
footprint smd SOICW/28
pins: 1, 2, 3, 4, 5, 6, 7, 8, 9, 10, 11, 12, 13, 14, 15, 16, 17, 18, 19, 20, 21, 22, 23, 24, 25, 26, 27, 28
text: AGND1; VS1; AIN0; VS2; AIN1; PWRD; AIN2; CONTC; AIN3; 'BUSY'; CAP; 'CS'; REF; R/'C'; AGND2; BYTE; D7; PAR/'SER'; D6; A0; D5; A1; D4; D0; D3; D1; DGND; D2

## ADS7841EB
designator IC?
12-Bit, 4-Channel Serial Output Sampling  ANALOG-TO-DIGITAL CONVERTER
footprint smd SSOPN/16 (body 4.1 pitch 0.635)
pins: 1 +Vcc, 2 CH0, 3 CH1, 4 CH2, 5 CH3, 6 COM, 7 ~{SHDN}, 8 Vref, 9 +Vcc, 10 GND, 11 MODE, 12 DOUT, 13 BUSY, 14 DIN, 15 ~{CS}, 16 DCLK

## ADS8328IR
designator IC?
AD converter with serial interface
footprint SMD QFN/16 (4x4MM P0.65MM)
pins: 1 REF+, 2 NC, 3 ~{CONVST}, 4 EOC/~{INT}/CDI, 5 FS/~{CS}, 6 SDI, 7 SDO, 8 BDGND, 9 SCLK, 10 +VBD, 11 +VA, 12 +IN1, 13 +IN0, 14 COM, 15 AGND, 16 REF-, 17

## ADXL210JE
designator IC?
accelerometer
footprint smd LCC/8
pins: 1, 2, 3, 4, 5, 6, 7, 8
text: VDD; ST; XFILT; T2; YFILT; COM; XOUT; YOUT

## ADXL325BCPZ
designator IC?
3-axis accelerometer
footprint smd QFN/16 (4x4x0.75mm p0.65mm)
pins: 1 NC, 2 ST, 3 COM, 4 NC, 5 COM, 6 COM, 7 COM, 8 ZOUT, 9 NC, 10 YOUT, 11 NC, 12 XOUT, 13 NC, 14 VS, 15 VS, 16 NC, 17

## ADXRS150ABG
designator IC?
single chip yaw rate Gyro with signal conditioning
footprint smd CSPBGA32
pins: 3, 5, 7, 8, 11, 13, 15, 16, 19, 21, 23, 24, 27, 29, 31, 32
text: CP4; CP3; CP5; PDD; CP1; PGND; CP2; ST1; AVCC; ST2; RO; TEMP; SUMJ; CMID; 2.5V; AGND

## ADXRS150EB
designator IC?
150°/s single chip rate gyro evaluation board
footprint icv DIP20-300
pins: 1 AVCC, 2 RATEOUT, 3 SUMJ, 4 CMID, 5 NC, 6 NC, 7 2.5V, 8 AGND, 9 TEMP, 10 ST2, 11 ST1, 12 PGND, 13 PDD, 14 CP5, 15 NC, 16 NC, 17 CP3, 18 CP4, 19 CP1, 20 CP2

## AFE4490
designator IC?
Integrated Analog Front-End for Pulse Oximeters
footprint smd QFN/40 (6x6mm p0.50mm)
pins: 1 INN, 2 INP, 3 RX_ANA_GND, 4 VCM, 5 DNC, 6 DNC, 7 BG, 8 VSS, 9 TX_REF, 10 DNC, 11 TX_CTRL_SUP, 12 LED_DRV_GND, 13 LED_DRV_GND, 14 TXN, 15 TXP, 16 LED_DRV_GND, 17 LED_DRV_SUP, 18 LED_DRV_SUP, 19 RX_DIG_GND, 20 AFE_~{PDN}, 21 DIAD_END, 22 LED_ALM, 23 PD_ALM, 24 SCLK, 25 SPISOMI, 26 SPISIMO, 27 SPISTE, 28 ADC_RDY, 29 ~{RESET}, 30 CLKOUT, 31 RX_DIG_GND, 32 RX_DIG_GND, 33 RX_ANA_SUP, 34 RXOUTN, 35 RXOUTP, 36 RX_ANA_GND, 37 XOUT, 38 XIN, 39 RX_ANA_SUP, 40 RX_ANA_GND

## ALM-81224
designator IC?
High Linearity 1450 – 2750 MHz Variable Gain Amplifier
footprint smd QFN/24 (6x6mm p0.8)
pins: 1 GND, 2 RFIN, 3 Q1, 4 Q2, 5 GND, 6 GND, 7 VC_att, 8 GND, 9 Vc1, 10 Vc2, 11 GND, 12 VddBIAS, 13 GND, 14 GND, 15 GND, 16 RFOUT, 17 RFOUT, 18 GND, 19 Vdd2, 20 GND, 21 GND, 22 GND, 23 GND, 24 Vdd1, 25 GND

## BMA180
designator IC?
Digital, triaxial acceleration sensor
footprint smd LGA/12 (Bosch)
pins: 1 DNC, 2 VDD, 3 VSS, 4 INT, 5 CSB, 6 DNC, 7 SCK, 8 SDO, 9 SDI, 10 VDDIO, 11 DNC, 12 DNC

## BP4P1+
designator IC?
Power Splitter/Combiner
footprint smd SOICN/8
pins: 1 P1, 2 SUM, 3 GND, 4 P4, 5 P3, 6 GND, 7 GND, 8 P2

## CC1100ERTKT
designator U?
Low-Power Sub-GHz RF Transceiver
footprint smd QFN/20 (4x4mm p0.50mm)
pins: 1 SCLK, 2 SO, 3 GDO2, 4 DVDD, 5 DCOUPL, 6 GDO0, 7 CSn, 8 XOSC_Q1, 9 AVDD, 10 XOSC_Q2, 11 AVDD, 12 RF_P, 13 RF_N, 14 AVDD, 15 AVDD, 16 GND, 17 RBIAS, 18 DGUARD, 19 GND, 20 SI, 21 GND

## DG408DJZ
designator IC?
8-channel high perf. cmos analog multiplexer
footprint icv DIP16-300
pins: 1 A0, 2 EN, 3 V-, 4 S1, 5 S2, 6 S3, 7 S4, 8 D, 9 S8, 10 S7, 11 S6, 12 S5, 13 V+, 14 GND, 15 A2, 16 A1

## DGVA1-242+
designator IC?, comment DVGA1-242+
Digital Controlled Variable Gain Amplifier
footprint SMD DG1677 (Minicircuits DG1677 package)
pins: 1 NC, 2 RF IN, 3 NC, 4 NC, 5 DATA, 6 CLOCK, 7 LE, 8 Vd1, 9 NC, 10 NC, 11 Vd1, 12 GND, 13 Vd1, 14 NC, 15 NC, 16 NC, 17 RF OUT, 18 NC, 19 BIAS2, 20 BIAS1, 21 NC, 22 RF JUMP IN, 23 RF JUMP OUT, 24 NC, 25 NC, 26 C8, 27 C4, 28 C2, 29 C1, 30 C0.5, 31 C16, 32 GND

## DRV8835DSSR
designator IC?
dual low voltage H-bridge
footprint SMD WSON/12 3x2mm
pins: 1 VM, 2 AOUT1, 3 AOUT2, 4 BOUT1, 5 BOUT2, 6 GND, 7 BIN2, 8 BIN1, 9 AIN2, 10 AIN1, 11 MODE, 12 VCC

## EL7104CN
designator IC?
high speed single channel power mosfet driver
footprint icv DIP8-300
pins: 1, 2, 4, 5, 6, 7, 8
text: V+; P-OUT; IN; N-OUT; GND

## EL7158ISZ
designator IC?
Ultra-High Current Pin Driver
footprint smd SOICN/8
pins: 1 VS+, 2 OE, 3 IN, 4 GND, 5 VS-, 6 VL, 7 OUT, 8 VH

## EM4095HMSO16A
designator IC?
transceiver for RFID basestation
footprint smd SOICN/16
pins: 1 VSS, 2 RDY/CLK, 3 ANT1, 4 DVDD, 5 DVSS, 6 ANT2, 7 VDD, 8 DEMODI, 9 CDECO, 10 CDECI, 11 AGND, 12 MOD, 13 DEMODO, 14 SHD, 15 FCAP, 16 DC2

## FAN7382N
designator IC?
half-bridge gate-driver
footprint icv DIP8-300
pins: 1 VCC, 2 HIN, 3 LIN, 4 COM, 5 LO, 6 VS, 7 HO, 8 VB

## Gali1+
designator IC?
Monolithic InGaP HBT MMIC Amplifier
footprint smd SOT-89
pins: 1 RF IN, 2 GND, 3 RF OUT, 4 GND

## GENIC/DIP8/A
designator IC?
generiek ic dip8
footprint icv DIP8-300
pins: 1, 2, 3, 4, 5, 6, 7, 8

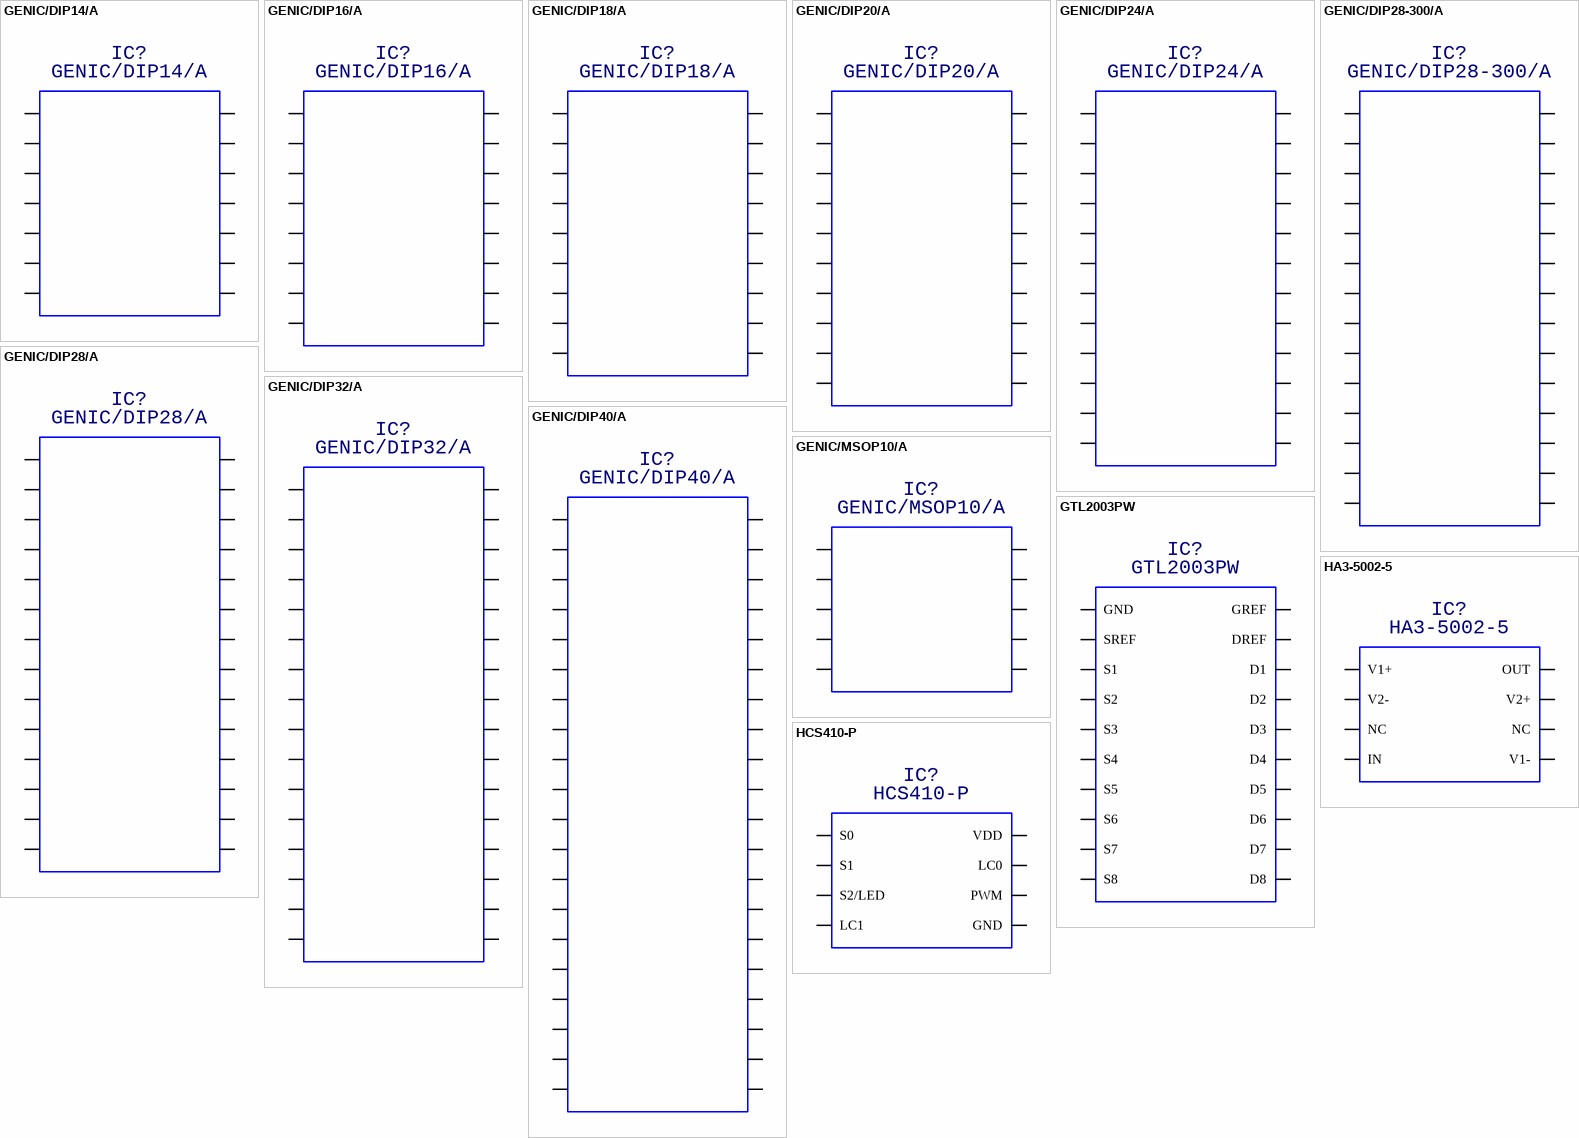
[diagram p5: symbols GENIC/DIP14/A to HCS410-P]

## GENIC/DIP14/A
designator IC?
generiek ic dip14
footprint icv DIP14-300
pins: 1, 2, 3, 4, 5, 6, 7, 8, 9, 10, 11, 12, 13, 14

## GENIC/DIP16/A
designator IC?
generiek ic dip16
footprint icv DIP16-300
pins: 1, 2, 3, 4, 5, 6, 7, 8, 9, 10, 11, 12, 13, 14, 15, 16

## GENIC/DIP18/A
designator IC?
generiek ic dip18
footprint icv DIP18-300
pins: 1, 2, 3, 4, 5, 6, 7, 8, 9, 10, 11, 12, 13, 14, 15, 16, 17, 18

## GENIC/DIP20/A
designator IC?
generiek ic dip20
footprint icv DIP20-300
pins: 1, 2, 3, 4, 5, 6, 7, 8, 9, 10, 11, 12, 13, 14, 15, 16, 17, 18, 19, 20

## GENIC/DIP24/A
designator IC?
generiek ic dip24
footprint icv DIP24-300
pins: 1, 2, 3, 4, 5, 6, 7, 8, 9, 10, 11, 12, 13, 14, 15, 16, 17, 18, 19, 20, 21, 22, 23, 24

## GENIC/DIP28-300/A
designator IC?
generiek ic dip28/300
footprint icv DIP28-300
pins: 1, 2, 3, 4, 5, 6, 7, 8, 9, 10, 11, 12, 13, 14, 15, 16, 17, 18, 19, 20, 21, 22, 23, 24, 25, 26, 27, 28

## GENIC/DIP28/A
designator IC?
generiek ic dip28
footprint icv DIP28-600
pins: 1, 2, 3, 4, 5, 6, 7, 8, 9, 10, 11, 12, 13, 14, 15, 16, 17, 18, 19, 20, 21, 22, 23, 24, 25, 26, 27, 28

## GENIC/DIP32/A
designator IC?
generiek ic dip32
footprint icv DIP32-600
pins: 1, 2, 3, 4, 5, 6, 7, 8, 9, 10, 11, 12, 13, 14, 15, 16, 17, 18, 19, 20, 21, 22, 23, 24, 25, 26, 27, 28, 29, 30, 31, 32

## GENIC/DIP40/A
designator IC?
generiek ic dip40
footprint icv DIP40-600
pins: 1, 2, 3, 4, 5, 6, 7, 8, 9, 10, 11, 12, 13, 14, 15, 16, 17, 18, 19, 20, 21, 22, 23, 24, 25, 26, 27, 28, 29, 30, 31, 32, 33, 34, 35, 36, 37, 38, 39, 40

## GENIC/MSOP10/A
designator IC?
generiek ic msop10p
footprint smd MSOP/10
pins: 1, 2, 3, 4, 5, 6, 7, 8, 9, 10

## GTL2003PW
designator IC?
8-bit Bidirectional Low Voltage Translator
footprint smd TSSOP/20 (body 4.4 pitch 0.65)
pins: 1 GND, 2 SREF, 3 S1, 4 S2, 5 S3, 6 S4, 7 S5, 8 S6, 9 S7, 10 S8, 11 D8, 12 D7, 13 D6, 14 D5, 15 D4, 16 D3, 17 D2, 18 D1, 19 DREF, 20 GREF

## HA3-5002-5
designator IC?
110MHz high slew rate, high output current buffer
footprint icv DIP8-300
pins: 1 V1+, 2 V2-, 3 NC, 4 IN, 5 V1-, 6 NC, 7 V2+, 8 OUT

## HCS410-P
designator IC?
KEELOQ Code Hopping Encoder and Transponder
footprint icv DIP8-300
pins: 1 S0, 2 S1, 3 S2/LED, 4 LC1, 5 GND, 6 PWM, 7 LC0, 8 VDD

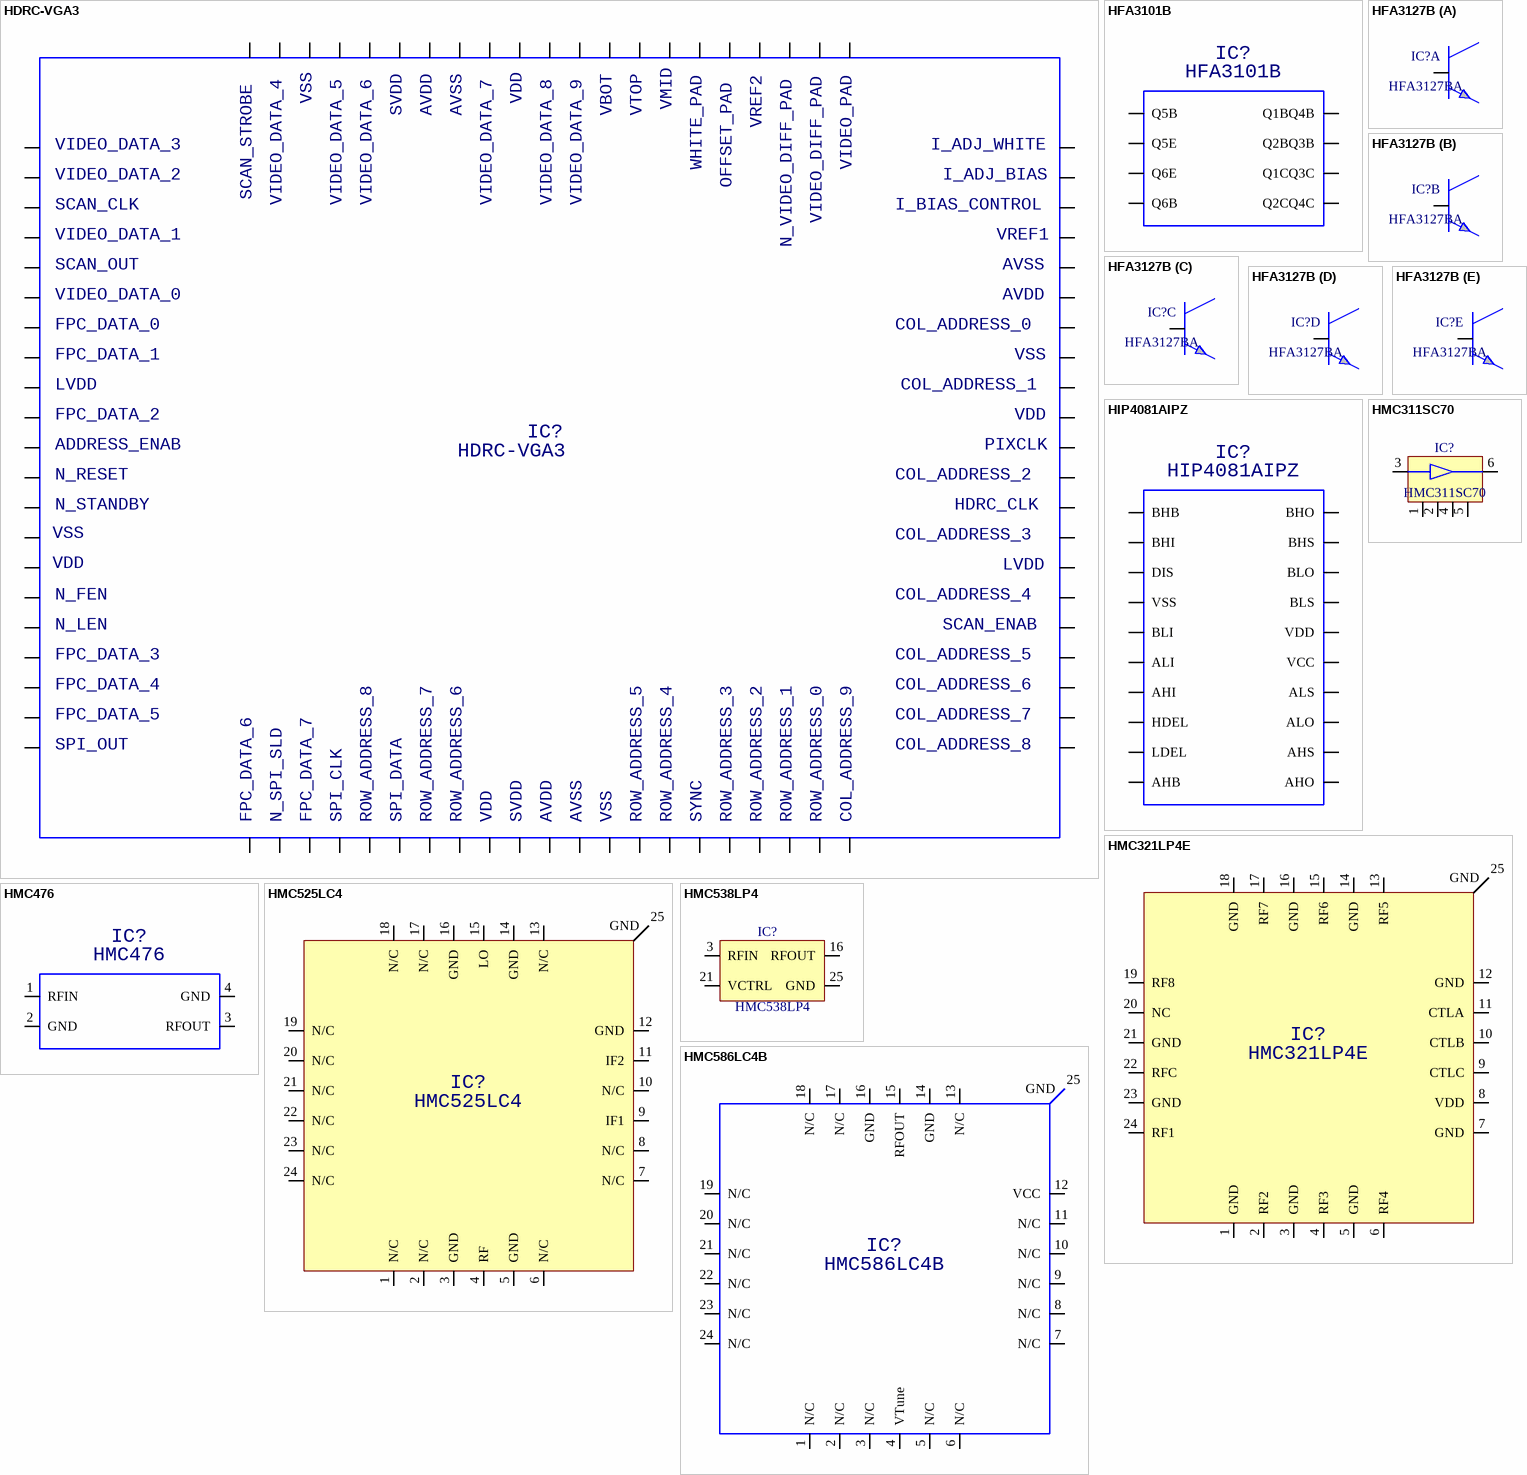
[diagram p6: symbols HDRC-VGA3 to HMC586LC4B]

## HDRC-VGA3
designator IC?
cmos image sensor, I.M.S.
footprint icv PLCC/.1/84
pins: 1, 2, 3, 4, 5, 6, 7, 8, 9, 10, 11, 12, 13, 14, 15, 16, 17, 18, 19, 20, 21, 22, 23, 24, 25, 26, 27, 28, 29, 30, 31, 32, 33, 34, 35, 36, 37, 38, 39, 40, 41, 42, 43, 44, 45, 46, 47, 48, 49, 50, 51, 52, 53, 54, 55, 56, 57, 58, 59, 60, 61, 62, 63, 64, 65, 66, 67, 68, 69, 70, 71, 72, 73, 74, 75, 76, 77, 78, 79, 80, 81, 82, 83, 84
text: VSS; VDD; VMID; SVDD; AVDD; AVSS; VBOT; VTOP; VREF2; VIDEO_DATA_3; I_ADJ_WHITE; WHITE_PAD; VIDEO_PAD; VIDEO_DATA_2; OFFSET_PAD; I_ADJ_BIAS; SCAN_STROBE; VIDEO_DATA_4; VIDEO_DATA_5; VIDEO_DATA_6; VIDEO_DATA_7; VIDEO_DATA_8; VIDEO_DATA_9; SCAN_CLK; I_BIAS_CONTROL; VIDEO_DIFF_PAD; VIDEO_DATA_1; N_VIDEO_DIFF_PAD; VREF1; SCAN_OUT; VIDEO_DATA_0; FPC_DATA_0; COL_ADDRESS_0; FPC_DATA_1; LVDD; COL_ADDRESS_1; FPC_DATA_2; ADDRESS_ENAB; PIXCLK; N_RESET; COL_ADDRESS_2; N_STANDBY; HDRC_CLK; COL_ADDRESS_3; N_FEN; COL_ADDRESS_4; N_LEN; SCAN_ENAB; FPC_DATA_3; COL_ADDRESS_5; FPC_DATA_4; COL_ADDRESS_6; FPC_DATA_5; COL_ADDRESS_7; SPI_OUT; COL_ADDRESS_8; FPC_DATA_6; N_SPI_SLD; FPC_DATA_7; SPI_CLK; ROW_ADDRESS_8; SPI_DATA; ROW_ADDRESS_7; ROW_ADDRESS_6; ROW_ADDRESS_5; ROW_ADDRESS_4; SYNC; ROW_ADDRESS_3; ROW_ADDRESS_2; ROW_ADDRESS_1; ROW_ADDRESS_0; COL_ADDRESS_9

## HFA3101B
designator IC?
Gilbert Cell UHF Transistor Array
footprint smd SOICN/8
pins: 1 Q5B, 2 Q5E, 3 Q6E, 4 Q6B, 5 Q2CQ4C, 6 Q1CQ3C, 7 Q2BQ3B, 8 Q1BQ4B

## HFA3127B
designator IC?, comment HFA3127BA
Ultra High Frequency Transistor Arrays
footprint smd SOICN/16
part A pins: 1, 15, 16
part B pins: 2, 3, 4
part C pins: 6, 7, 8
part D pins: 9, 10, 11
part E pins: 12, 13, 14

## HIP4081AIPZ
designator IC?
80V/2.5A peak, high frequency full bridge FET driver
footprint icv DIP20-300
pins: 1 BHB, 2 BHI, 3 DIS, 4 VSS, 5 BLI, 6 ALI, 7 AHI, 8 HDEL, 9 LDEL, 10 AHB, 11 AHO, 12 AHS, 13 ALO, 14 ALS, 15 VCC, 16 VDD, 17 BLS, 18 BLO, 19 BHS, 20 BHO

## HMC311SC70
designator IC?
InGaP HBT GAIN BLOCK  MMIC AMPLIFIER, DC - 8 GHz
footprint smd SC-70 (6-pin)
pins: 1, 2, 3, 4, 5, 6

## HMC321LP4E
designator IC?
GaAs MMIC SP8T NON-REFLECTIVE  POSITIVE CONTROL SWITCH, DC* - 8 GHz
footprint smd QFN/24 (4x4mm p0.50mm)
pins: 1 GND, 2 RF2, 3 GND, 4 RF3, 5 GND, 6 RF4, 7 GND, 8 VDD, 9 CTLC, 10 CTLB, 11 CTLA, 12 GND, 13 RF5, 14 GND, 15 RF6, 16 GND, 17 RF7, 18 GND, 19 RF8, 20 NC, 21 GND, 22 RFC, 23 GND, 24 RF1, 25 GND

## HMC476
designator IC?
MMIC Amplifier
footprint smd ic MP86 (Hittite Micro-P)
pins: 1 RFIN, 2 GND, 3 RFOUT, 4 GND

## HMC525LC4
designator IC?
GaAs MMIC I/Q MIXER  4 - 8.5 GHz
footprint smd QFN/24 (4x4mm p0.50mm)
pins: 1 N/C, 2 N/C, 3 GND, 4 RF, 5 GND, 6 N/C, 7 N/C, 8 N/C, 9 IF1, 10 N/C, 11 IF2, 12 GND, 13 N/C, 14 GND, 15 LO, 16 GND, 17 N/C, 18 N/C, 19 N/C, 20 N/C, 21 N/C, 22 N/C, 23 N/C, 24 N/C, 25 GND

## HMC538LP4
designator IC?
600° ANALOG PHASE SHIFTER
footprint smd lp4e
pins: 3 RFIN, 16 RFOUT, 21 VCTRL, 25 GND

## HMC586LC4B
designator IC?
Wideband MMIC VCO
footprint smd QFN/24 (4x4mm p0.50mm)
pins: 1 N/C, 2 N/C, 3 N/C, 4 VTune, 5 N/C, 6 N/C, 7 N/C, 8 N/C, 9 N/C, 10 N/C, 11 N/C, 12 VCC, 13 N/C, 14 GND, 15 RFOUT, 16 GND, 17 N/C, 18 N/C, 19 N/C, 20 N/C, 21 N/C, 22 N/C, 23 N/C, 24 N/C, 25 GND

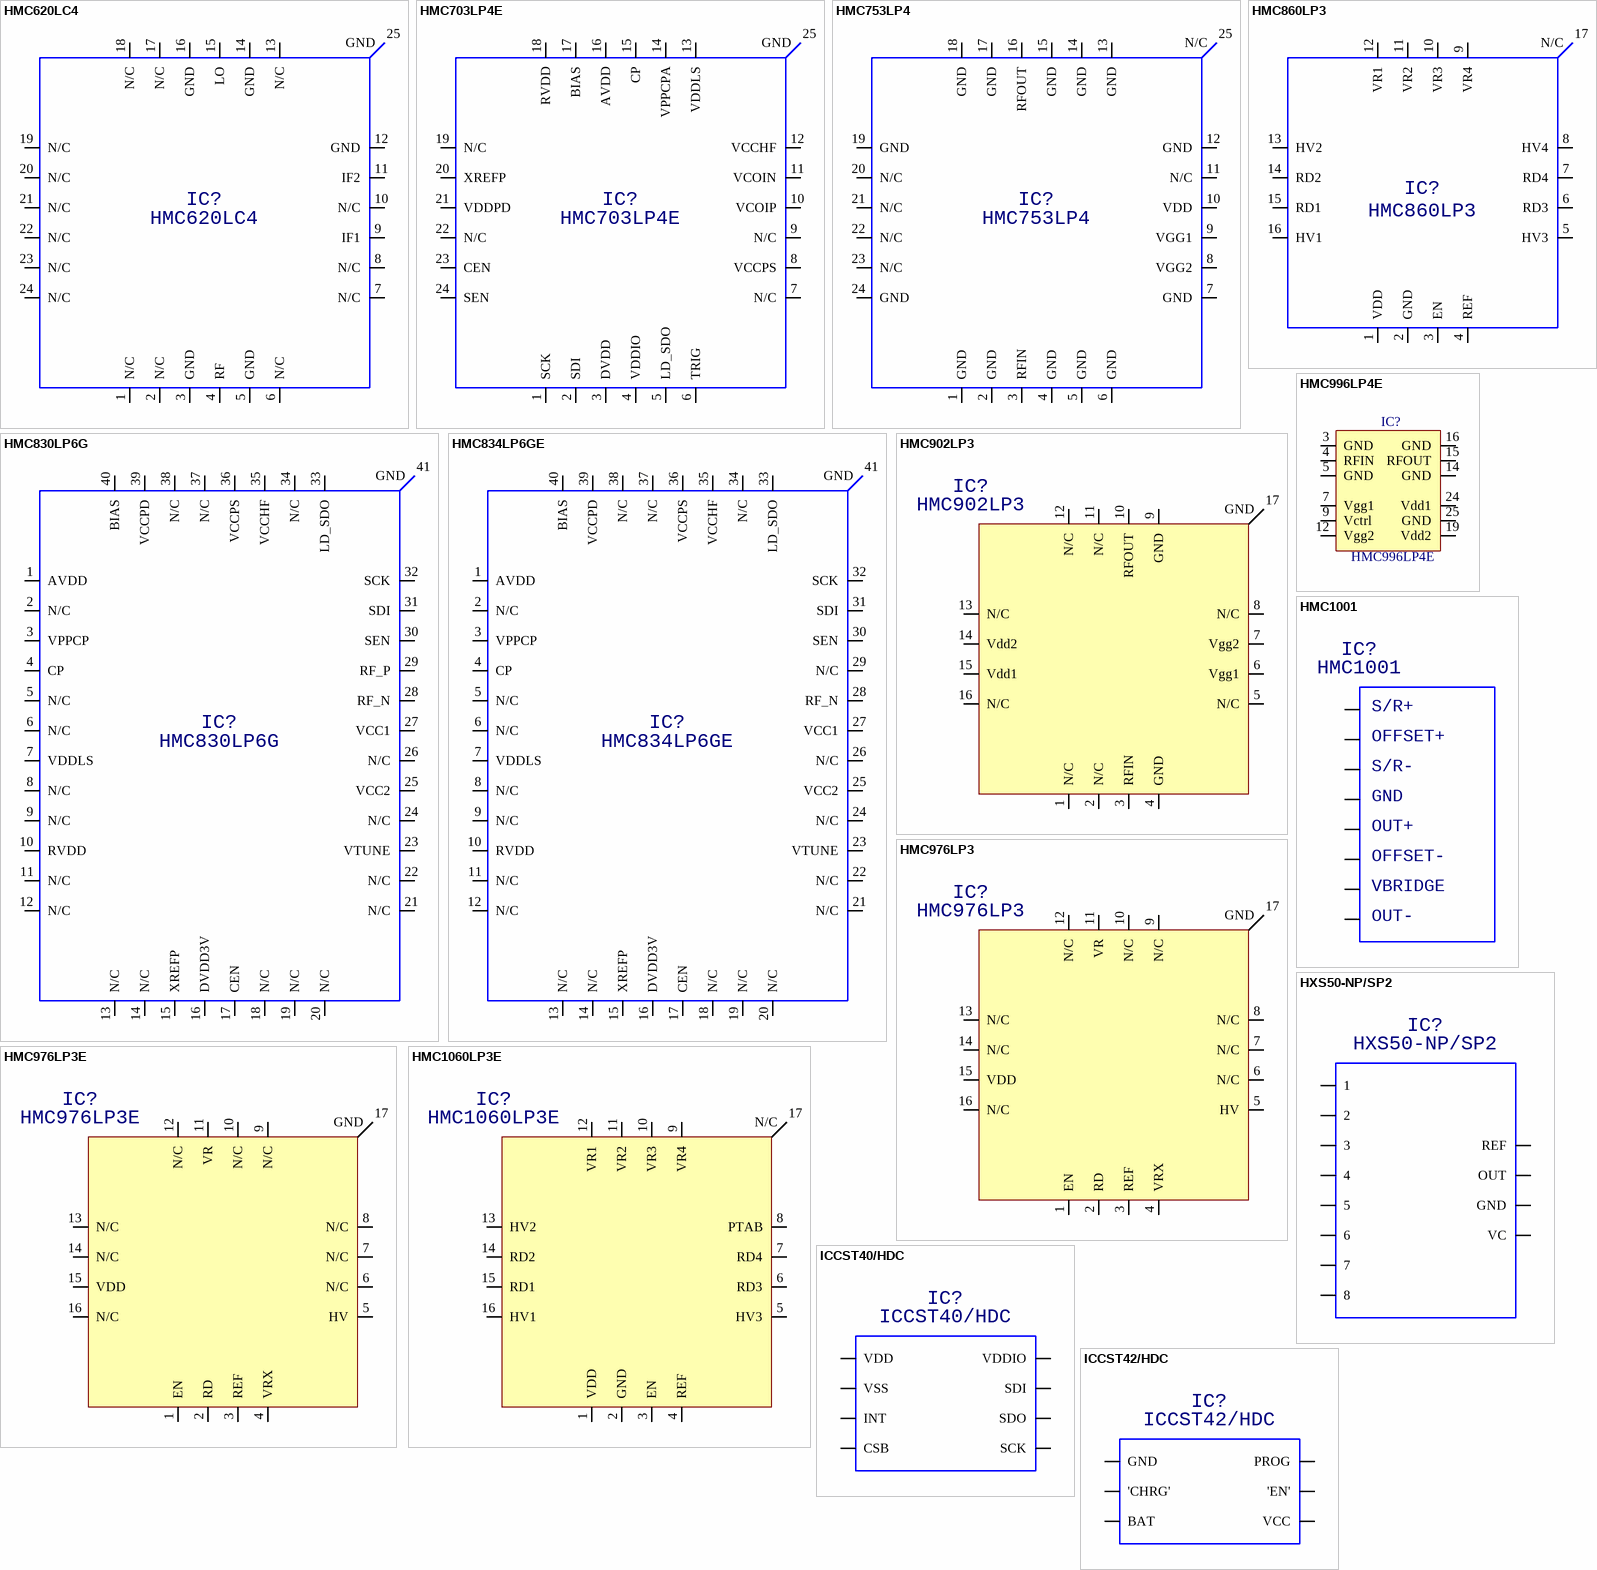
[diagram p7: symbols HMC620LC4 to ICCST42/HDC]

## HMC620LC4
designator IC?
MMIC I/Q Mixer
footprint smd QFN/24 (4x4mm p0.50mm)
pins: 1 N/C, 2 N/C, 3 GND, 4 RF, 5 GND, 6 N/C, 7 N/C, 8 N/C, 9 IF1, 10 N/C, 11 IF2, 12 GND, 13 N/C, 14 GND, 15 LO, 16 GND, 17 N/C, 18 N/C, 19 N/C, 20 N/C, 21 N/C, 22 N/C, 23 N/C, 24 N/C, 25 GND

## HMC703LP4E
designator IC?
Fractional synthesizer
footprint smd QFN/24 (4x4mm p0.50mm)
pins: 1 SCK, 2 SDI, 3 DVDD, 4 VDDIO, 5 LD_SDO, 6 TRIG, 7 N/C, 8 VCCPS, 9 N/C, 10 VCOIP, 11 VCOIN, 12 VCCHF, 13 VDDLS, 14 VPPCPA, 15 CP, 16 AVDD, 17 BIAS, 18 RVDD, 19 N/C, 20 XREFP, 21 VDDPD, 22 N/C, 23 CEN, 24 SEN, 25 GND

## HMC753LP4
designator IC?
Low Noise Amplifier
footprint smd QFN/24 (4x4mm p0.50mm)
pins: 1 GND, 2 GND, 3 RFIN, 4 GND, 5 GND, 6 GND, 7 GND, 8 VGG2, 9 VGG1, 10 VDD, 11 N/C, 12 GND, 13 GND, 14 GND, 15 GND, 16 RFOUT, 17 GND, 18 GND, 19 GND, 20 N/C, 21 N/C, 22 N/C, 23 N/C, 24 GND, 25 N/C

## HMC830LP6G
designator IC?
Fractional-N PLL
footprint smd QFN/40 (6x6mm p0.50mm)
pins: 1 AVDD, 2 N/C, 3 VPPCP, 4 CP, 5 N/C, 6 N/C, 7 VDDLS, 8 N/C, 9 N/C, 10 RVDD, 11 N/C, 12 N/C, 13 N/C, 14 N/C, 15 XREFP, 16 DVDD3V, 17 CEN, 18 N/C, 19 N/C, 20 N/C, 21 N/C, 22 N/C, 23 VTUNE, 24 N/C, 25 VCC2, 26 N/C, 27 VCC1, 28 RF_N, 29 RF_P, 30 SEN, 31 SDI, 32 SCK, 33 LD_SDO, 34 N/C, 35 VCCHF, 36 VCCPS, 37 N/C, 38 N/C, 39 VCCPD, 40 BIAS, 41 GND

## HMC834LP6GE
designator IC?
Fractional-N PLL
footprint smd QFN/40 (6x6mm p0.50mm)
pins: 1 AVDD, 2 N/C, 3 VPPCP, 4 CP, 5 N/C, 6 N/C, 7 VDDLS, 8 N/C, 9 N/C, 10 RVDD, 11 N/C, 12 N/C, 13 N/C, 14 N/C, 15 XREFP, 16 DVDD3V, 17 CEN, 18 N/C, 19 N/C, 20 N/C, 21 N/C, 22 N/C, 23 VTUNE, 24 N/C, 25 VCC2, 26 N/C, 27 VCC1, 28 RF_N, 29 N/C, 30 SEN, 31 SDI, 32 SCK, 33 LD_SDO, 34 N/C, 35 VCCHF, 36 VCCPS, 37 N/C, 38 N/C, 39 VCCPD, 40 BIAS, 41 GND

## HMC860LP3
designator IC?
Linear voltage regulator
footprint smd QFN/16 (3x3mm p0.5mm)
pins: 1 VDD, 2 GND, 3 EN, 4 REF, 5 HV3, 6 RD3, 7 RD4, 8 HV4, 9 VR4, 10 VR3, 11 VR2, 12 VR1, 13 HV2, 14 RD2, 15 RD1, 16 HV1, 17 N/C

## HMC902LP3
designator IC?
Low Noise Amplifier
footprint smd QFN/16 (3x3mm p0.5mm)
pins: 1 N/C, 2 N/C, 3 RFIN, 4 GND, 5 N/C, 6 Vgg1, 7 Vgg2, 8 N/C, 9 GND, 10 RFOUT, 11 N/C, 12 N/C, 13 N/C, 14 Vdd2, 15 Vdd1, 16 N/C, 17 GND

## HMC976LP3
designator IC?
Linear voltage regulator
footprint smd QFN/16 (3x3mm p0.5mm)
pins: 1 EN, 2 RD, 3 REF, 4 VRX, 5 HV, 6 N/C, 7 N/C, 8 N/C, 9 N/C, 10 N/C, 11 VR, 12 N/C, 13 N/C, 14 N/C, 15 VDD, 16 N/C, 17 GND

## HMC976LP3E
designator IC?
Linear voltage regulator
footprint smd QFN/16 (3x3mm p0.5mm)
pins: 1 EN, 2 RD, 3 REF, 4 VRX, 5 HV, 6 N/C, 7 N/C, 8 N/C, 9 N/C, 10 N/C, 11 VR, 12 N/C, 13 N/C, 14 N/C, 15 VDD, 16 N/C, 17 GND

## HMC996LP4E
designator IC?
Variable gain amplifier
footprint smd lp4e
pins: 3 GND, 4 RFIN, 5 GND, 7 Vgg1, 9 Vctrl, 12 Vgg2, 14 GND, 15 RFOUT, 16 GND, 19 Vdd2, 24 Vdd1, 25 GND

## HMC1001
designator IC?
magnetic sensor
footprint icv SIP8-50
pins: 1, 2, 3, 4, 5, 6, 7, 8
text: S/R+; OFFSET+; S/R-; GND; OUT+; OFFSET-; VBRIDGE; OUT-

## HMC1060LP3E
designator IC?
Linear voltage regulator
footprint smd QFN/16 (3x3mm p0.5mm)
pins: 1 VDD, 2 GND, 3 EN, 4 REF, 5 HV3, 6 RD3, 7 RD4, 8 PTAB, 9 VR4, 10 VR3, 11 VR2, 12 VR1, 13 HV2, 14 RD2, 15 RD1, 16 HV1, 17 N/C

## HXS50-NP/SP2
designator IC?
current transducer
footprint stroomtrafo (LEM HXS50-NP/SP2)
pins: 1, 2, 3, 4, 5, 6, 7, 8, 9 VC, 10 GND, 11 OUT, 12 REF

## ICCST40/HDC
designator IC?
ref. Hans De Clercq
footprint smd ICCST40
pins: 1 VDD, 2 VSS, 3 INT, 4 CSB, 5 SCK, 6 SDO, 7 SDI, 8 VDDIO

## ICCST42/HDC
designator IC?
ref. Hans De Clercq
footprint smd QFN/6 (2x2mm p0.50mm - geen centraal pad)
pins: 1 GND, 2 'CHRG', 3 BAT, 4 VCC, 5 'EN', 6 PROG

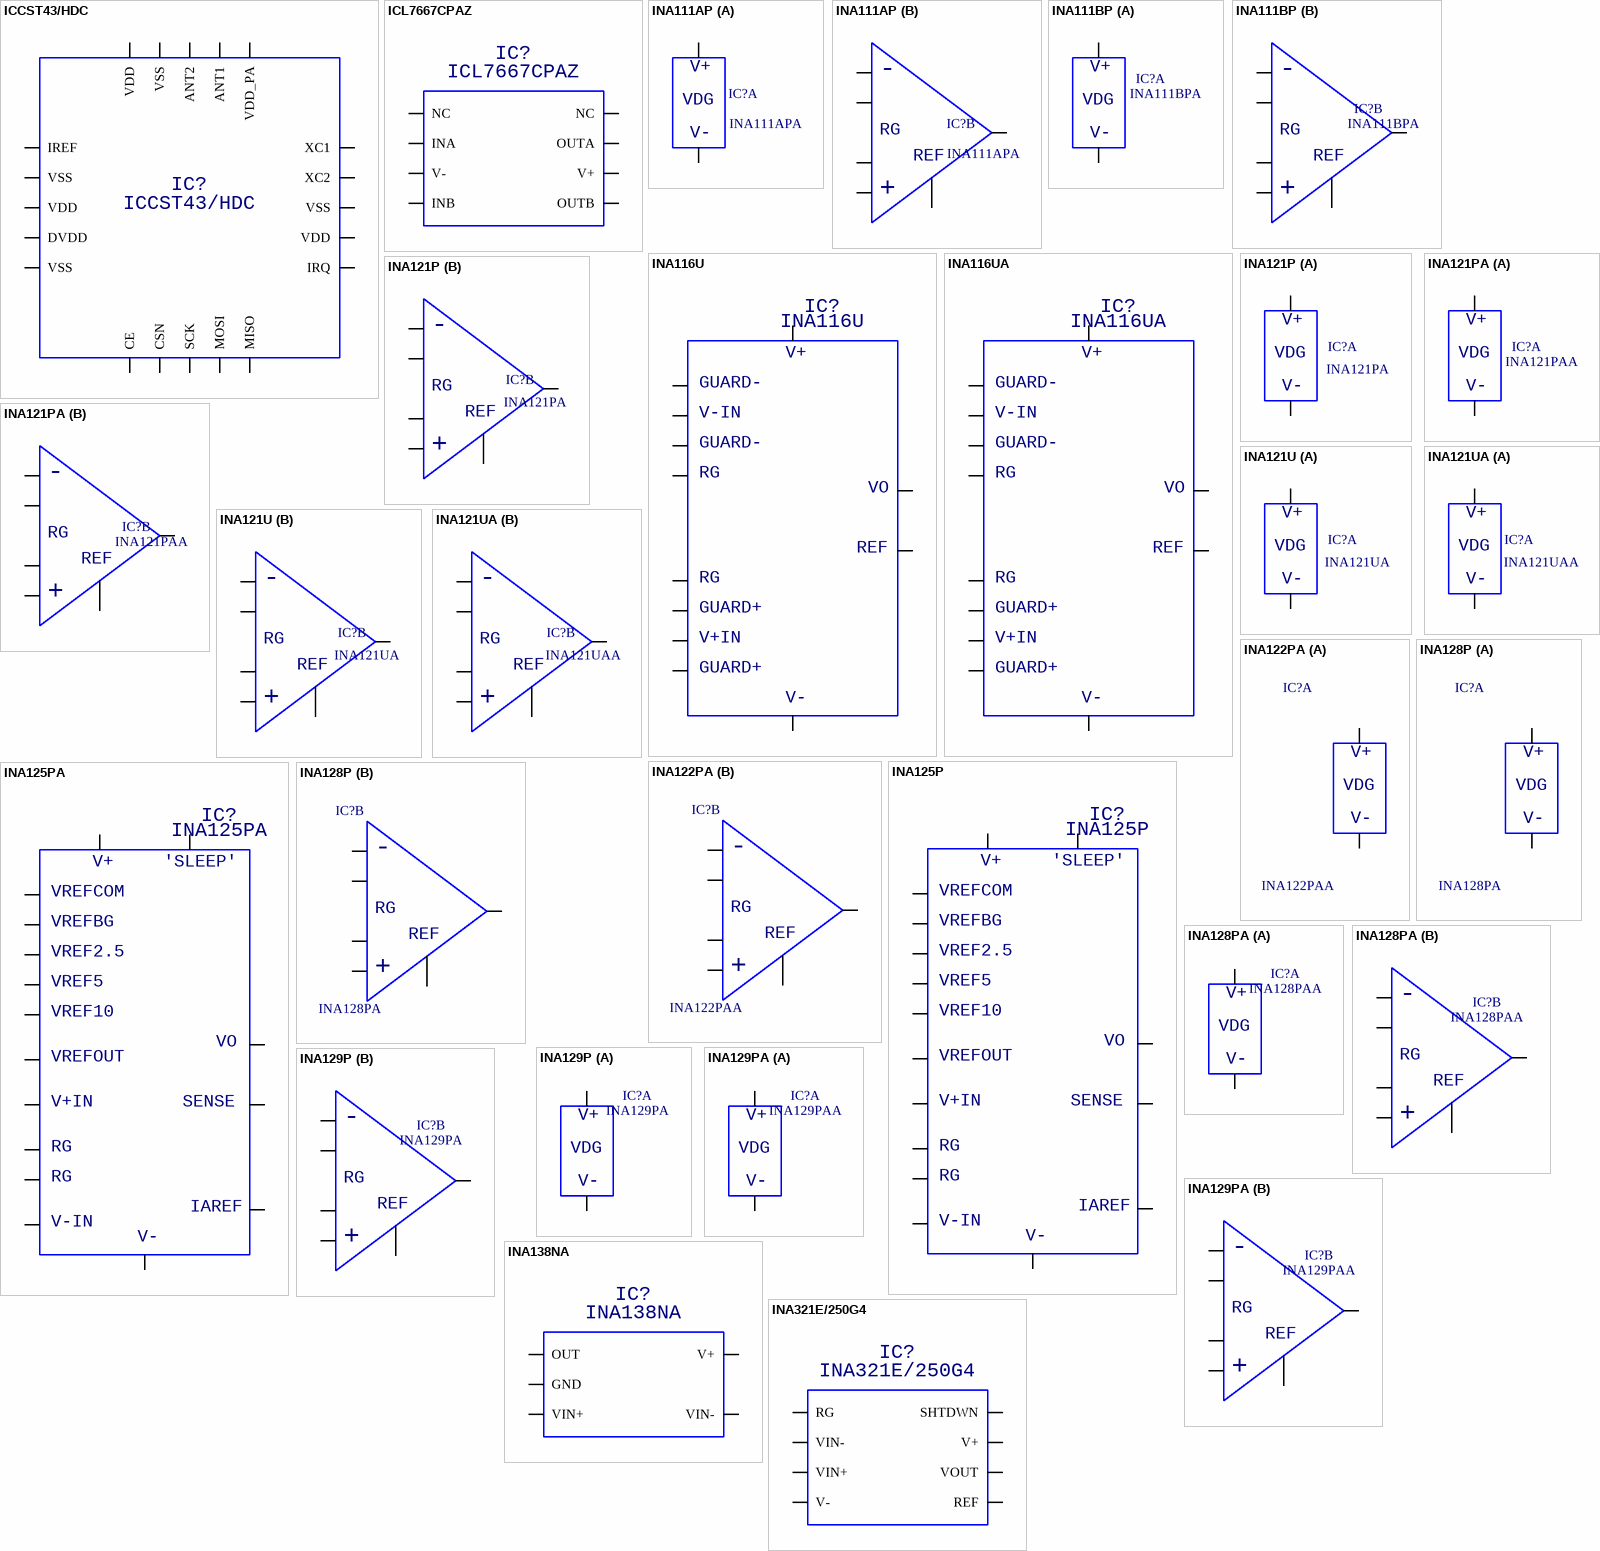
[diagram p8: symbols ICCST43/HDC to INA321E/250G4]

## ICCST43/HDC
designator IC?
ref. Hans De Clercq
footprint smd QFN/20 (4x4mm p0.50mm - geen centraal pad)
pins: 1 CE, 2 CSN, 3 SCK, 4 MOSI, 5 MISO, 6 IRQ, 7 VDD, 8 VSS, 9 XC2, 10 XC1, 11 VDD_PA, 12 ANT1, 13 ANT2, 14 VSS, 15 VDD, 16 IREF, 17 VSS, 18 VDD, 19 DVDD, 20 VSS

## ICL7667CPAZ
designator IC?
dual power mosfet driver
footprint icv DIP8-300
pins: 1 NC, 2 INA, 3 V-, 4 INB, 5 OUTB, 6 V+, 7 OUTA, 8 NC

## INA111AP
designator IC?, comment INA111APA
high speed FET-Input instrumentation amplifier
footprint icv DIP8-300
part A pins: 4, 7
part B pins: 1, 2, 3, 5, 6, 8
part A text: V+; VDG; V-
part B text: -; RG; REF; +

## INA111BP
designator IC?, comment INA111BPA
high speed FET-Input instrumentation amplifier
footprint icv DIP8-300
part A pins: 4, 7
part B pins: 1, 2, 3, 5, 6, 8
part A text: V+; VDG; V-
part B text: -; RG; REF; +

## INA116U
designator IC?
ultra low input bias current instrumentation amplifier
footprint smd SOICW/16
pins: 1, 2, 3, 4, 5, 6, 7, 8, 9, 11, 13, 16
text: V+; GUARD-; V-IN; RG; VO; REF; GUARD+; V+IN; V-

## INA116UA
designator IC?
ultra low input bias current instrumentation amplifier
footprint smd SOICW/16
pins: 1, 2, 3, 4, 5, 6, 7, 8, 9, 11, 13, 16
text: V+; GUARD-; V-IN; RG; VO; REF; GUARD+; V+IN; V-

## INA121P
designator IC?, comment INA121PA
fet-input low power instrumentation opamp
footprint icv DIP8-300
part A pins: 4, 7
part B pins: 1, 2, 3, 5, 6, 8
part A text: V+; VDG; V-
part B text: -; RG; REF; +

## INA121PA
designator IC?, comment INA121PAA
fet-input low power instrumentation opamp
footprint icv DIP8-300
part A pins: 4, 7
part B pins: 1, 2, 3, 5, 6, 8
part A text: V+; VDG; V-
part B text: -; RG; REF; +

## INA121U
designator IC?, comment INA121UA
fet-input low power instrumentation opamp
footprint smd SOICN/8
part A pins: 4, 7
part B pins: 1, 2, 3, 5, 6, 8
part A text: V+; VDG; V-
part B text: -; RG; REF; +

## INA121UA
designator IC?, comment INA121UAA
fet-input low power instrumentation opamp
footprint smd SOICN/8
part A pins: 4, 7
part B pins: 1, 2, 3, 5, 6, 8
part A text: V+; VDG; V-
part B text: -; RG; REF; +

## INA122PA
designator IC?, comment INA122PAA
single supply µpower instrumentation opamp
footprint icv DIP8-300
part A pins: 4, 7
part B pins: 1, 2, 3, 5, 6, 8
part A text: V+; VDG; V-
part B text: -; RG; REF; +

## INA125P
designator IC?
instrumentatieversterker, precisie spanningsref.
footprint icv DIP16-300
pins: 1, 2, 3, 4, 5, 6, 7, 8, 9, 10, 11, 12, 13, 14, 15, 16
text: V+; 'SLEEP'; VREFCOM; VREFBG; VREF2.5; VREF5; VREF10; VO; VREFOUT; V+IN; SENSE; RG; IAREF; V-IN; V-

## INA125PA
designator IC?
instrumentatieversterker, precisie spanningsref.
footprint icv DIP16-300
pins: 1, 2, 3, 4, 5, 6, 7, 8, 9, 10, 11, 12, 13, 14, 15, 16
text: V+; 'SLEEP'; VREFCOM; VREFBG; VREF2.5; VREF5; VREF10; VO; VREFOUT; V+IN; SENSE; RG; IAREF; V-IN; V-

## INA128P
designator IC?, comment INA128PA
precision low power instrumentation opamp
footprint icv DIP8-300
part A pins: 4, 7
part B pins: 1, 2, 3, 5, 6, 8
part A text: V+; VDG; V-
part B text: -; RG; REF; +

## INA128PA
designator IC?, comment INA128PAA
precision low power instrumentation opamp
footprint icv DIP8-300
part A pins: 4, 7
part B pins: 1, 2, 3, 5, 6, 8
part A text: V+; VDG; V-
part B text: -; RG; REF; +

## INA129P
designator IC?, comment INA129PA
precision low power instrumentation opamp
footprint icv DIP8-300
part A pins: 4, 7
part B pins: 1, 2, 3, 5, 6, 8
part A text: V+; VDG; V-
part B text: -; RG; REF; +

## INA129PA
designator IC?, comment INA129PAA
precision low power instrumentation opamp
footprint icv DIP8-300
part A pins: 4, 7
part B pins: 1, 2, 3, 5, 6, 8
part A text: V+; VDG; V-
part B text: -; RG; REF; +

## INA138NA
designator IC?
High-Side Measurement Current Shunt Monitor
footprint smd SOT-23/5p (body 1.6 wide, pitch 0.95mm)
pins: 1 OUT, 2 GND, 3 VIN+, 4 VIN-, 5 V+

## INA321E/250G4
designator IC?
micropower single-supply cmos instrumentation amplifier
footprint smd MSOP/8
pins: 1 RG, 2 VIN-, 3 VIN+, 4 V-, 5 REF, 6 VOUT, 7 V+, 8 SHTDWN

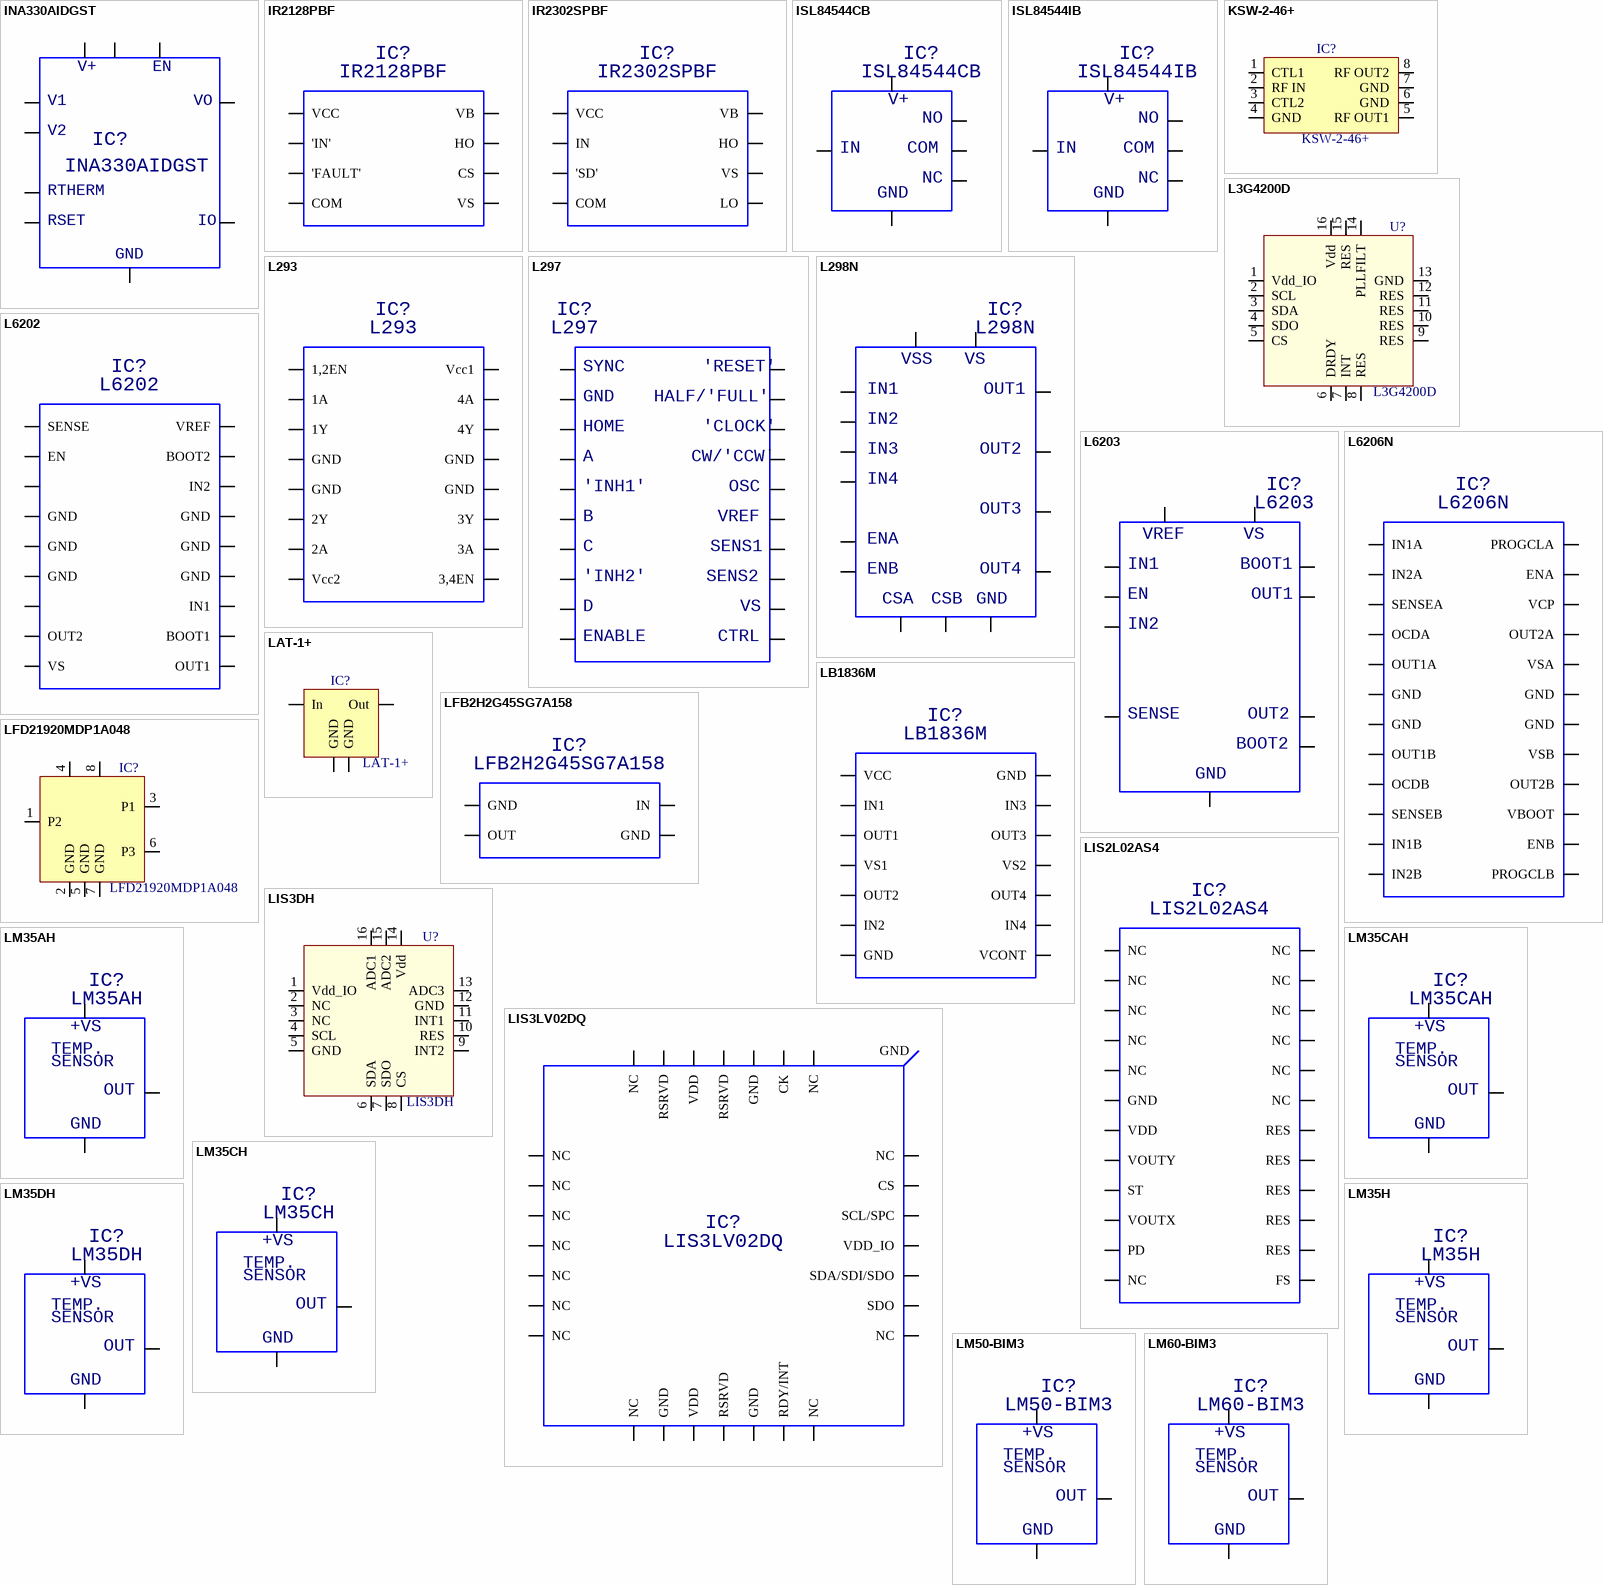
[diagram p9: symbols INA330AIDGST to LM60-BIM3]

## INA330AIDGST
designator IC?
thermistor signal amplifier
footprint smd MSOIC/10
pins: 1, 2, 3, 4, 5, 6, 7, 8, 9, 10
text: V+; EN; V1; VO; V2; RTHERM; RSET; IO; GND

## IR2128PBF
designator IC?
current sensing single channel driver
footprint icv DIP8-300
pins: 1 VCC, 2 'IN', 3 'FAULT', 4 COM, 5 VS, 6 CS, 7 HO, 8 VB

## IR2302SPBF
designator IC?
half-bridge driver
footprint smd SOICN/8
pins: 1 VCC, 2 IN, 3 'SD', 4 COM, 5 LO, 6 VS, 7 HO, 8 VB

## ISL84544CB
designator IC?
SPDT analog switch
footprint smd SOICN/8
pins: 1, 2, 3, 4, 7, 8
text: V+; NO; IN; COM; NC; GND

## ISL84544IB
designator IC?
SPDT analog switch
footprint smd SOICN/8
pins: 1, 2, 3, 4, 7, 8
text: V+; NO; IN; COM; NC; GND

## KSW-2-46+
designator IC?
Surface mount switch, 50r, SPDT, DC to 4.6GHz
footprint smd xx112 (Minicircuits XX112 case)
pins: 1 CTL1, 2 RF IN, 3 CTL2, 4 GND, 5 RF OUT1, 6 GND, 7 GND, 8 RF OUT2

## L3G4200D
designator U?
ultra-stable three-axis digital output gyroscope
footprint smd LGA/16 (4x4mm)
pins: 1 Vdd_IO, 2 SCL, 3 SDA, 4 SDO, 5 CS, 6 DRDY, 7 INT, 8 RES, 9 RES, 10 RES, 11 RES, 12 RES, 13 GND, 14 PLLFILT, 15 RES, 16 Vdd

## L293
designator IC?
Quadruple half-H drivers
footprint icv DIP16-300
pins: 1 1,2EN, 2 1A, 3 1Y, 4 GND, 5 GND, 6 2Y, 7 2A, 8 Vcc2, 9 3,4EN, 10 3A, 11 3Y, 12 GND, 13 GND, 14 4Y, 15 4A, 16 Vcc1

## L297
designator IC?
stappenmotor stuurblok
footprint icv DIP20-300
pins: 1, 2, 3, 4, 5, 6, 7, 8, 9, 10, 11, 12, 13, 14, 15, 16, 17, 18, 19, 20
text: SYNC; 'RESET'; GND; HALF/'FULL'; HOME; 'CLOCK'; A; CW/'CCW'; 'INH1'; OSC; B; VREF; C; SENS1; 'INH2'; SENS2; D; VS; ENABLE; CTRL

## L298N
designator IC?
dual full-bridge driver
footprint TO-220 15pin
pins: 1, 2, 3, 4, 5, 6, 7, 8, 9, 10, 11, 12, 13, 14, 15
text: VSS; VS; IN1; OUT1; IN2; IN3; OUT2; IN4; OUT3; ENA; ENB; OUT4; CSA; CSB; GND

## L6202
designator IC?
DMOS full bridge driver
footprint icv DIP18-300
pins: 1 SENSE, 2 EN, 3, 4 GND, 5 GND, 6 GND, 7, 8 OUT2, 9 VS, 10 OUT1, 11 BOOT1, 12 IN1, 13 GND, 14 GND, 15 GND, 16 IN2, 17 BOOT2, 18 VREF

## L6203
designator IC?
DMOS full bridge driver
footprint multiwatt 11V
pins: 1, 2, 3, 4, 5, 6, 7, 8, 9, 10, 11
text: VREF; VS; IN1; BOOT1; EN; OUT1; IN2; SENSE; OUT2; BOOT2; GND

## L6206N
designator IC?
DMOS dual full bridge driver
footprint icv DIP24-300
pins: 1 IN1A, 2 IN2A, 3 SENSEA, 4 OCDA, 5 OUT1A, 6 GND, 7 GND, 8 OUT1B, 9 OCDB, 10 SENSEB, 11 IN1B, 12 IN2B, 13 PROGCLB, 14 ENB, 15 VBOOT, 16 OUT2B, 17 VSB, 18 GND, 19 GND, 20 VSA, 21 OUT2A, 22 VCP, 23 ENA, 24 PROGCLA

## LAT-1+
designator IC?
Miniature surface mount fixed attenuator 50r 0.5W
footprint smd sot-143
pins: 1 GND, 2 Out, 3 GND, 4 In

## LB1836M
designator IC?
low saturation, bidir motor driver for low voltage applications
footprint smd ic14p Sanyo MFP14S (body 4.4 pitch 1)
pins: 1 VCC, 2 IN1, 3 OUT1, 4 VS1, 5 OUT2, 6 IN2, 7 GND, 8 VCONT, 9 IN4, 10 OUT4, 11 VS2, 12 OUT3, 13 IN3, 14 GND

## LFB2H2G45SG7A158
designator IC?
bandpass filter, Murata LFB2H2G45SG7A158
footprint smd filter LFB2H_SG7 (Murata)
pins: 1 GND, 2 OUT, 3 GND, 4 IN

## LFD21920MDP1A048
designator IC?
Filter
footprint LFD21920MDP1A048
pins: 1 P2, 2 GND, 3 P1, 4, 5 GND, 6 P3, 7 GND, 8

## LIS2L02AS4
designator IC?
linear accelerometer
footprint smd SOICW/24
pins: 1 NC, 2 NC, 3 NC, 4 NC, 5 NC, 6 GND, 7 VDD, 8 VOUTY, 9 ST, 10 VOUTX, 11 PD, 12 NC, 13 FS, 14 RES, 15 RES, 16 RES, 17 RES, 18 RES, 19 NC, 20 NC, 21 NC, 22 NC, 23 NC, 24 NC

## LIS3DH
designator U?
ultra low-power high performance 3-axes accelerometer
footprint SMD LGA16/0.5
pins: 1 Vdd_IO, 2 NC, 3 NC, 4 SCL, 5 GND, 6 SDA, 7 SDO, 8 CS, 9 INT2, 10 RES, 11 INT1, 12 GND, 13 ADC3, 14 Vdd, 15 ADC2, 16 ADC1

## LIS3LV02DQ
designator IC?
3-axis accelerometer
footprint smd QFPN/28 (7x7mm)
pins: 1 NC, 2 GND, 3 VDD, 4 RSRVD, 5 GND, 6 RDY/INT, 7 NC, 8 NC, 9 SDO, 10 SDA/SDI/SDO, 11 VDD_IO, 12 SCL/SPC, 13 CS, 14 NC, 15 NC, 16 CK, 17 GND, 18 RSRVD, 19 VDD, 20 RSRVD, 21 NC, 22 NC, 23 NC, 24 NC, 25 NC, 26 NC, 27 NC, 28 NC, 29 GND

## LM35AH
designator IC?
precision centigrade temp. sensor
footprint TO-18
pins: 1, 2, 3
text: +VS; TEMP.; SENSOR; OUT; GND

## LM35CAH
designator IC?
precision centigrade temp. sensor
footprint TO-18
pins: 1, 2, 3
text: +VS; TEMP.; SENSOR; OUT; GND

## LM35CH
designator IC?
precision centigrade temp. sensor
footprint TO-18
pins: 1, 2, 3
text: +VS; TEMP.; SENSOR; OUT; GND

## LM35DH
designator IC?
precision centigrade temp. sensor
footprint TO-18
pins: 1, 2, 3
text: +VS; TEMP.; SENSOR; OUT; GND

## LM35H
designator IC?
precision centigrade temp. sensor
footprint TO-18
pins: 1, 2, 3
text: +VS; TEMP.; SENSOR; OUT; GND

## LM50-BIM3
designator IC?
Single supply Centigrade temperature sensor
footprint smd SOT-23
pins: 1, 2, 3
text: +VS; TEMP.; SENSOR; OUT; GND

## LM60-BIM3
designator IC?
Single +2.7v supply Centigrade temperature sensor
footprint smd SOT-23
pins: 1, 2, 3
text: +VS; TEMP.; SENSOR; OUT; GND

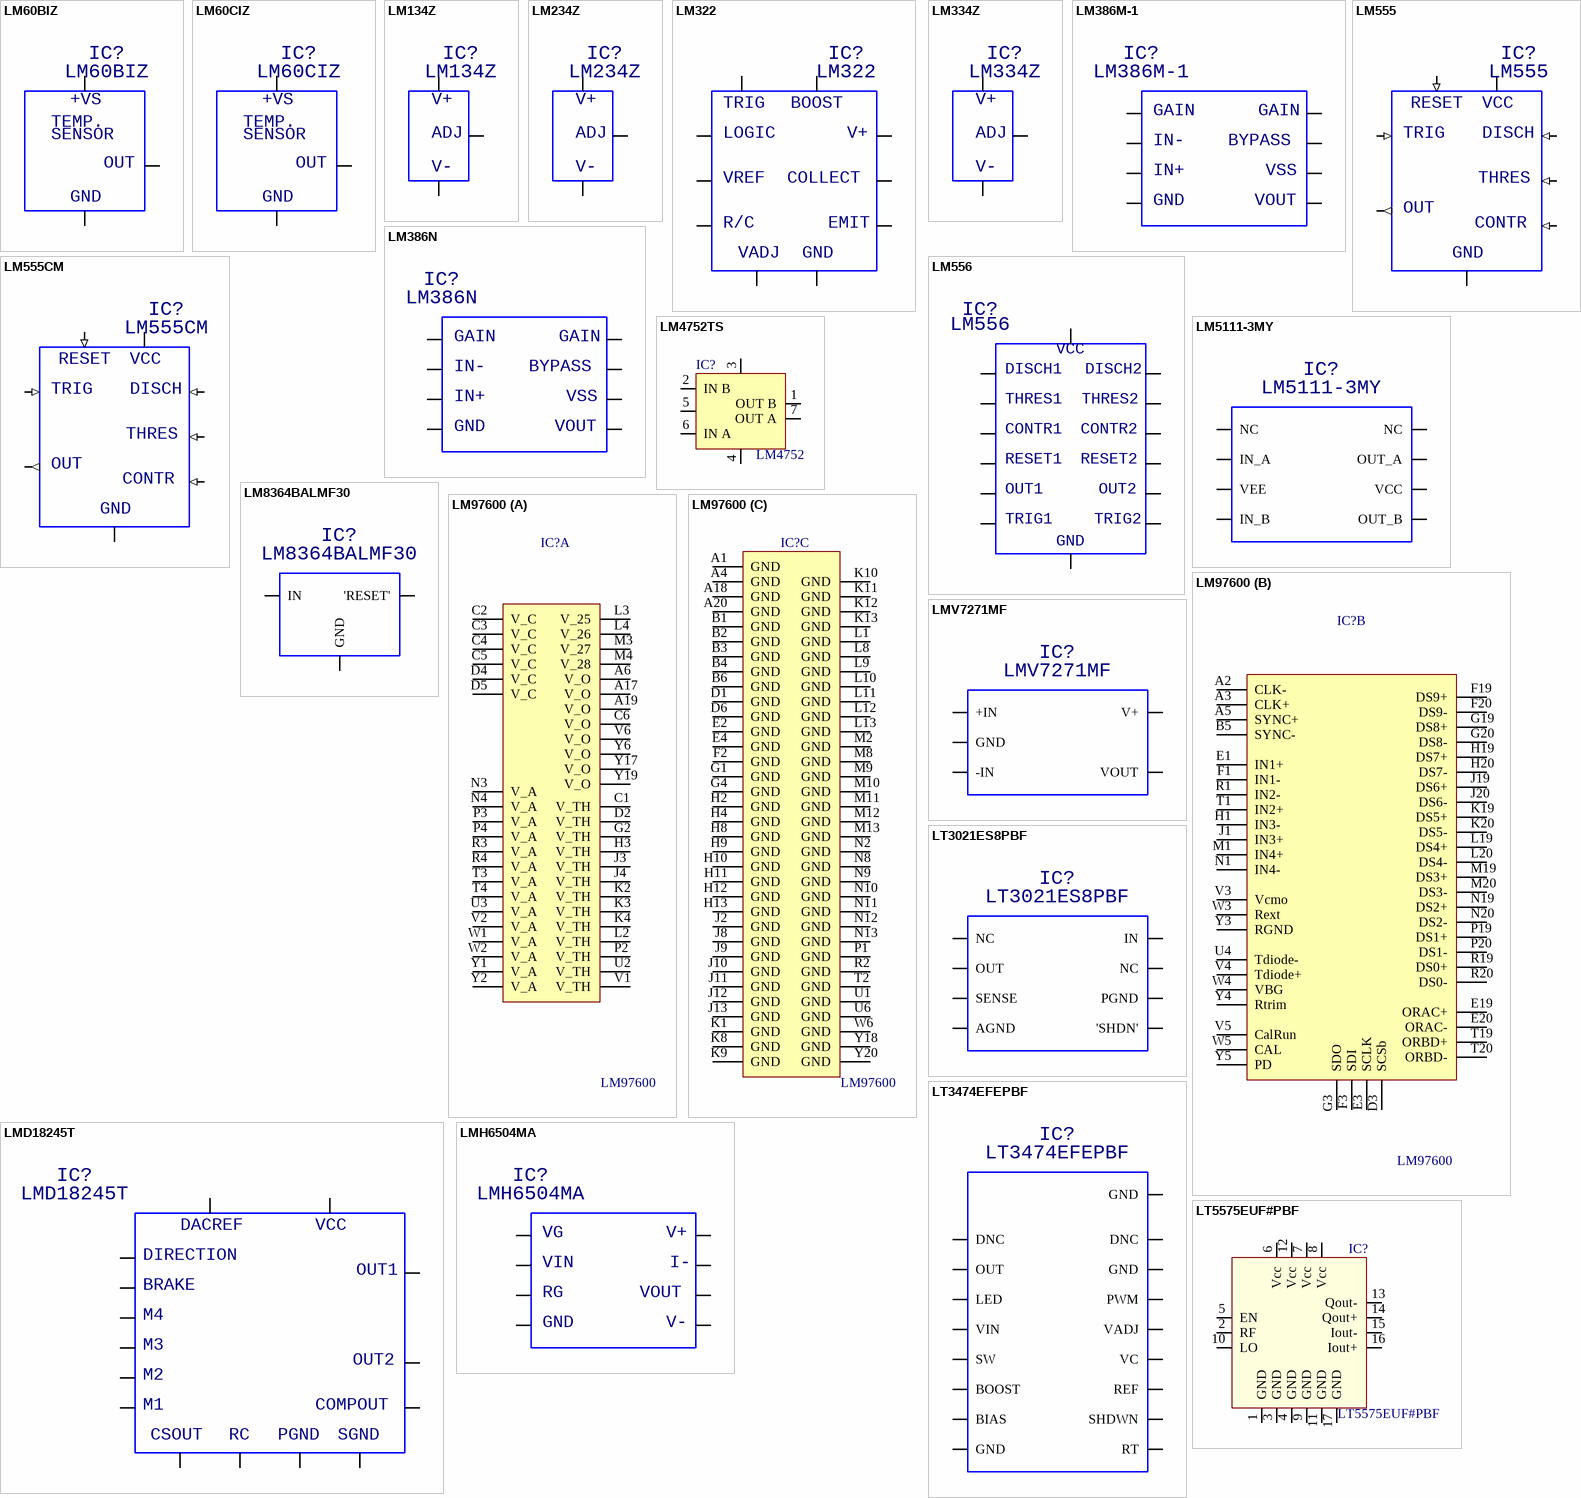
[diagram p10: symbols LM60BIZ to LT5575EUF#PBF]

## LM60BIZ
designator IC?
temperature sensor, 2.7V, -40 tot +125 degr.C
footprint TO-92
pins: 1, 2, 3
text: +VS; TEMP.; SENSOR; OUT; GND

## LM60CIZ
designator IC?
temperature sensor, 2.7V, -40 tot +125 degr.C
footprint TO-92
pins: 1, 2, 3
text: +VS; TEMP.; SENSOR; OUT; GND

## LM134Z
designator IC?
adjustable current source
footprint TO-92
pins: 1, 2, 3
text: V+; ADJ; V-

## LM234Z
designator IC?
adjustable current source
footprint TO-92
pins: 1, 2, 3
text: V+; ADJ; V-

## LM322
designator IC?
precisie timer
footprint icv DIP14-300
pins: 1, 2, 3, 4, 5, 6, 7, 10, 11, 12
text: TRIG; BOOST; LOGIC; V+; VREF; COLLECT; R/C; EMIT; VADJ; GND

## LM334Z
designator IC?
adjustable current source
footprint TO-92
pins: 1, 2, 3
text: V+; ADJ; V-

## LM386M-1
designator IC?
low voltage audio power amplifier
footprint smd SOICN/8
pins: 1, 2, 3, 4, 5, 6, 7, 8
text: GAIN; IN-; BYPASS; IN+; VSS; GND; VOUT

## LM386N
designator IC?
low voltage audio power amplifier
footprint icv DIP8-300
pins: 1, 2, 3, 4, 5, 6, 7, 8
text: GAIN; IN-; BYPASS; IN+; VSS; GND; VOUT

## LM555
designator IC?
timer
footprint icv DIP8-300
pins: 1, 2 (in), 3 (out), 4 (in), 5 (in), 6 (in), 7 (in), 8
text: RESET; VCC; TRIG; DISCH; THRES; OUT; CONTR; GND

## LM555CM
designator IC?
timer
footprint smd SOICN/8
pins: 1, 2 (in), 3 (out), 4 (in), 5 (in), 6 (in), 7 (in), 8
text: RESET; VCC; TRIG; DISCH; THRES; OUT; CONTR; GND

## LM556
designator IC?
dubbele LM555
footprint icv DIP14-300
pins: 1, 2, 3, 4, 5, 6, 7, 8, 9, 10, 11, 12, 13, 14
text: VCC; DISCH1; DISCH2; THRES1; THRES2; CONTR1; CONTR2; RESET1; RESET2; OUT1; OUT2; TRIG1; TRIG2; GND

## LM4752TS
designator IC?, comment LM4752
Stereo 11W Audio Power Amplifier
footprint TO-263 7pin
pins: 1 OUT B, 2 IN B, 3, 4, 5, 6 IN A, 7 OUT A

## LM5111-3MY
designator IC?
dual 5A compound gate driver
footprint smd MSOP/8
pins: 1 NC, 2 IN_A, 3 VEE, 4 IN_B, 5 OUT_B, 6 VCC, 7 OUT_A, 8 NC

## LM8364BALMF30
designator IC?
micropower undervoltage sensing circuit
footprint smd SOT-23/5p (body 1.6 wide, pitch 0.95mm)
pins: 1 'RESET', 2 IN, 3 GND

## LM97600
designator IC?
7.6-Bit, 1/2/4 Channel, 5/2.5/1.25 GSPS, High Performance, Low Power A/D  Converter
footprint smd BGA20x20
part A pins: A6 V_O, A17 V_O, A19 V_O, C1 V_TH, C2 V_C, C3 V_C, C4 V_C, C5 V_C, C6 V_O, D2 V_TH, D4 V_C, D5 V_C, G2 V_TH, H3 V_TH, J3 V_TH, J4 V_TH, K2 V_TH, K3 V_TH, K4 V_TH, L2 V_TH, L3 V_25, L4 V_26, M3 V_27, M4 V_28, N3 V_A, N4 V_A, P2 V_TH, P3 V_A, P4 V_A, R3 V_A, R4 V_A, T3 V_A, T4 V_A, U2 V_TH, U3 V_A, V1 V_TH, V2 V_A, V6 V_O, W1 V_A, W2 V_A, Y1 V_A, Y2 V_A, Y6 V_O, Y17 V_O, Y19 V_O
part B pins: A2 CLK-, A3 CLK+, A5 SYNC+, B5 SYNC-, D3 SCSb, E1 IN1+, E3 SCLK, E19 ORAC+, E20 ORAC-, F1 IN1-, F3 SDI, F19 DS9+, F20 DS9-, G3 SDO, G19 DS8+, G20 DS8-, H1 IN3-, H19 DS7+, H20 DS7-, J1 IN3+, J19 DS6+, J20 DS6-, K19 DS5+, K20 DS5-, L19 DS4+, L20 DS4-, M1 IN4+, M19 DS3+, M20 DS3-, N1 IN4-, N19 DS2+, N20 DS2-, P19 DS1+, P20 DS1-, R1 IN2-, R19 DS0+, R20 DS0-, T1 IN2+, T19 ORBD+, T20 ORBD-, U4 Tdiode-, V3 Vcmo, V4 Tdiode+, V5 CalRun, W3 Rext, W4 VBG, W5 CAL, Y3 RGND, Y4 Rtrim, Y5 PD
part C pins: A1 GND, A4 GND, A18 GND, A20 GND, B1 GND, B2 GND, B3 GND, B4 GND, B6 GND, D1 GND, D6 GND, E2 GND, E4 GND, F2 GND, G1 GND, G4 GND, H2 GND, H4 GND, H8 GND, H9 GND, H10 GND, H11 GND, H12 GND, H13 GND, J2 GND, J8 GND, J9 GND, J10 GND, J11 GND, J12 GND, J13 GND, K1 GND, K8 GND, K9 GND, K10 GND, K11 GND, K12 GND, K13 GND, L1 GND, L8 GND, L9 GND, L10 GND, L11 GND, L12 GND, L13 GND, M2 GND, M8 GND, M9 GND, M10 GND, M11 GND, M12 GND, M13 GND, N2 GND, N8 GND, N9 GND, N10 GND, N11 GND, N12 GND, N13 GND, P1 GND, R2 GND, T2 GND, U1 GND, U6 GND, W6 GND, Y18 GND, Y20 GND

## LMD18245T
designator IC?
stappenmotor stuurblok
footprint TO-220 15pin
pins: 1, 2, 3, 4, 5, 6, 7, 8, 9, 10, 11, 12, 13, 14, 15
text: DACREF; VCC; DIRECTION; OUT1; BRAKE; M4; M3; OUT2; M2; M1; COMPOUT; CSOUT; RC; PGND; SGND

## LMH6504MA
designator IC?
wideband, low power, variable gain amplifier
footprint smd SOICN/8
pins: 1, 2, 3, 4, 5, 6, 7, 8
text: VG; V+; VIN; I-; RG; VOUT; GND; V-

## LMV7271MF
designator IC?
comparator, rail-to-rail
footprint smd SOT-23/5p (body 1.6 wide, pitch 0.95mm)
pins: 1 +IN, 2 GND, 3 -IN, 4 VOUT, 5 V+

## LT3021ES8PBF
designator IC?
Low Voltage Very Low Dropout Regulator
footprint smd SOICN/8
pins: 1 NC, 2 OUT, 3 SENSE, 4 AGND, 5 'SHDN', 6 PGND, 7 NC, 8 IN

## LT3474EFEPBF
designator IC?
step-down 1A led driver
footprint smd TSSOP/16+1 (body 4.4 pitch 0.65)
pins: 1 DNC, 2 OUT, 3 LED, 4 VIN, 5 SW, 6 BOOST, 7 BIAS, 8 GND, 9 RT, 10 SHDWN, 11 REF, 12 VC, 13 VADJ, 14 PWM, 15 GND, 16 DNC, 17 GND

## LT5575EUF#PBF
designator IC?
IQ Quadrature Demodulator
footprint smd QFN/16 (4x4x0.75mm p0.65mm)
pins: 1 GND, 2 RF, 3 GND, 4 GND, 5 EN, 6 Vcc, 7 Vcc, 8 Vcc, 9 GND, 10 LO, 11 GND, 12 Vcc, 13 Qout-, 14 Qout+, 15 Iout-, 16 Iout+, 17 GND

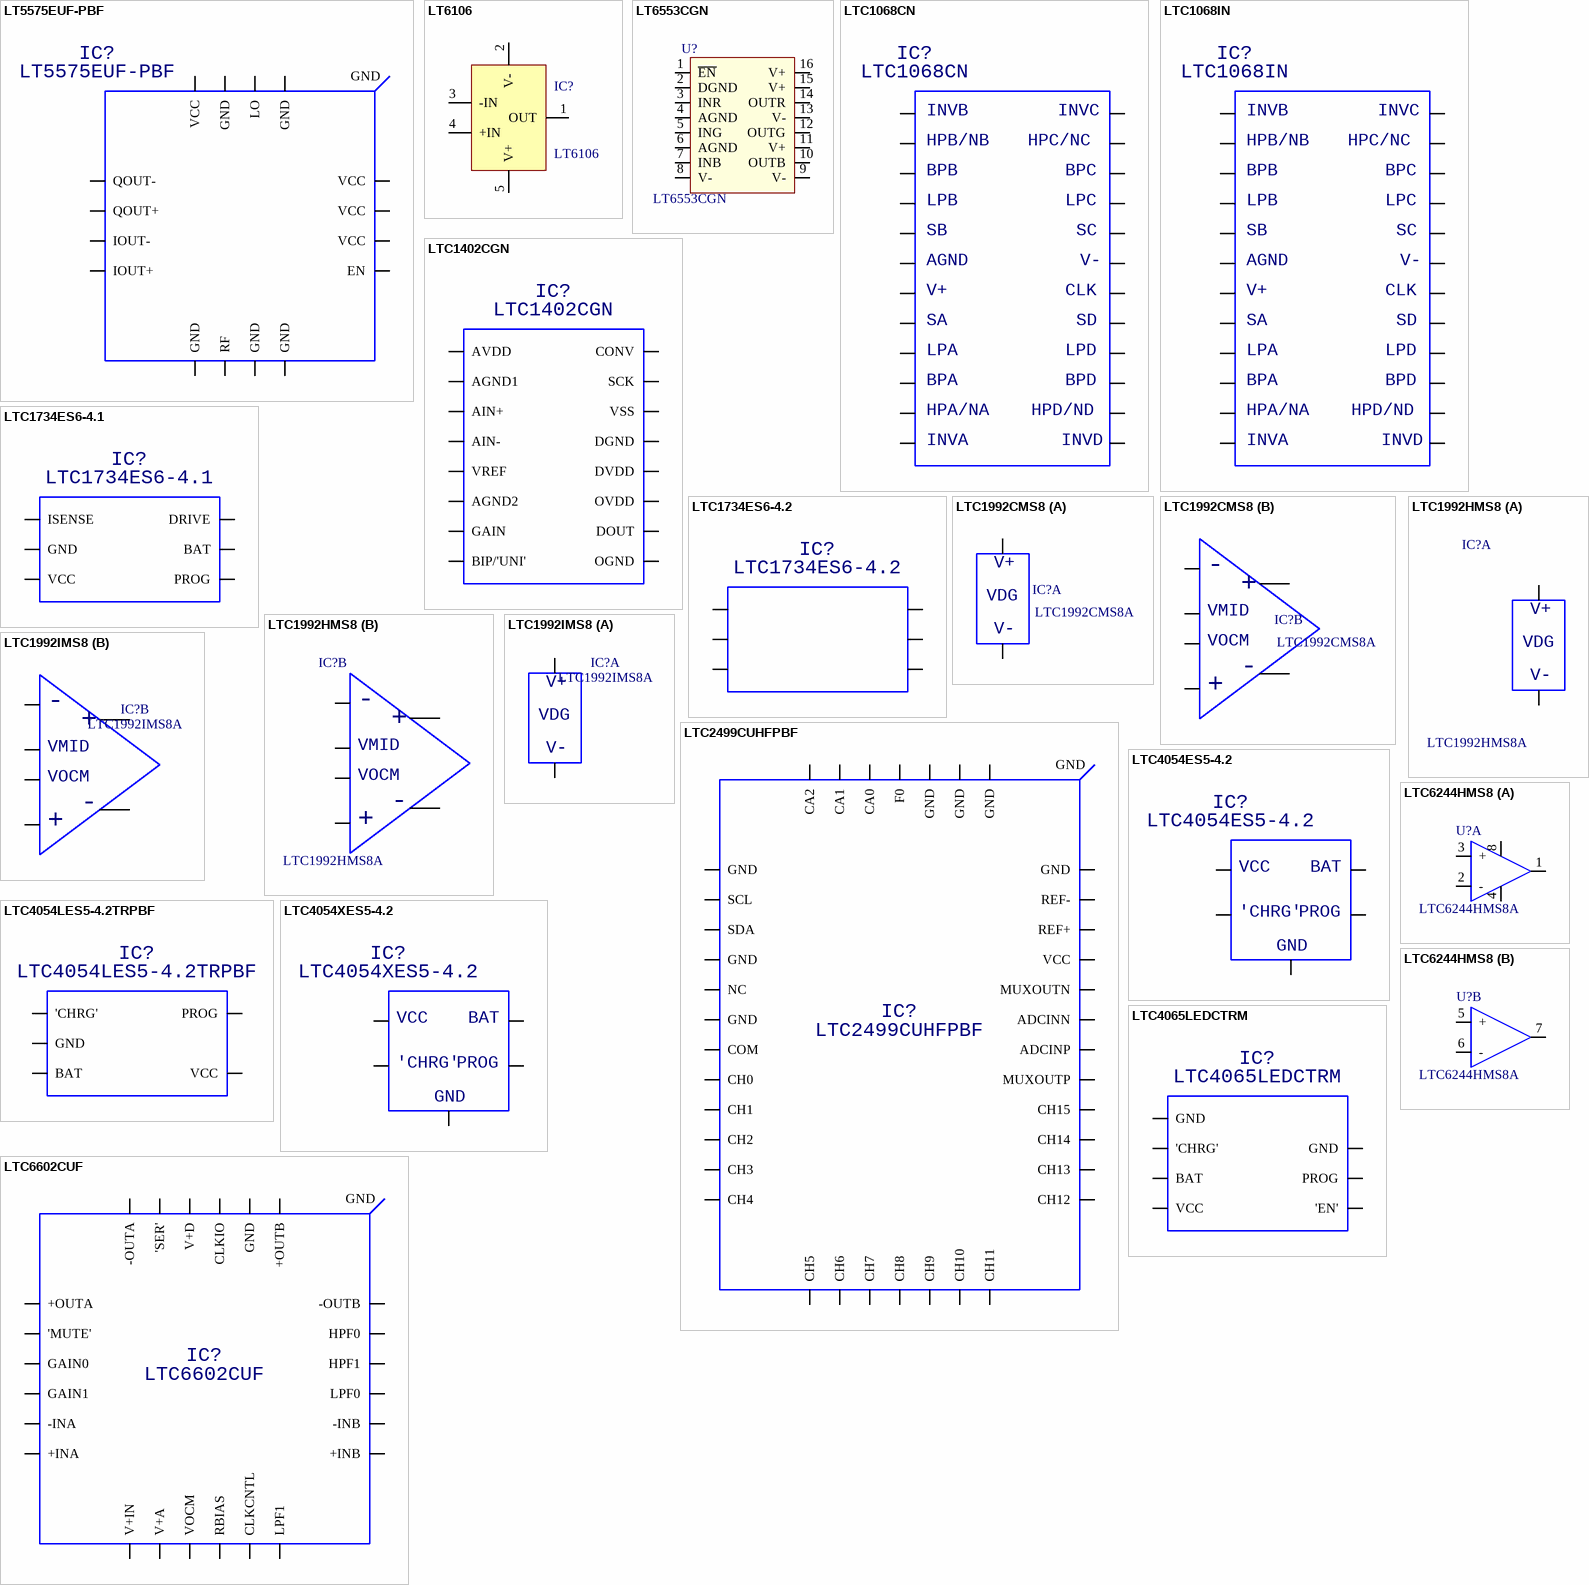
[diagram p11: symbols LT5575EUF-PBF to LTC6602CUF]

## LT5575EUF-PBF
designator IC?
800MHz to 2.7GHz quadrature demodulator
footprint smd QFN/16 (4x4x0.75mm p0.65mm)
pins: 1 GND, 2 RF, 3 GND, 4 GND, 5 EN, 6 VCC, 7 VCC, 8 VCC, 9 GND, 10 LO, 11 GND, 12 VCC, 13 QOUT-, 14 QOUT+, 15 IOUT-, 16 IOUT+, 17 GND

## LT6106
designator IC?
36V Low Cost High Side  Current Sense
footprint smd SOT-23/5p (body 1.6 wide, pitch 0.95mm)
pins: 1 OUT, 2 V-, 3 -IN, 4 +IN, 5 V+

## LT6553CGN
designator U?
650MHz Gain of 2  Triple Video Amplifier
footprint smd SSOP/16 (body 5.3 pitch 0.65)
pins: 1 ~{EN}, 2 DGND, 3 INR, 4 AGND, 5 ING, 6 AGND, 7 INB, 8 V-, 9 V-, 10 OUTB, 11 V+, 12 OUTG, 13 V-, 14 OUTR, 15 V+, 16 V+

## LTC1068CN
designator IC?
second order, filter building blocks
footprint icv DIP24-300
pins: 1, 2, 3, 4, 5, 6, 7, 8, 9, 10, 11, 12, 13, 14, 15, 16, 17, 18, 19, 20, 21, 22, 23, 24
text: INVB; INVC; HPB/NB; HPC/NC; BPB; BPC; LPB; LPC; SB; SC; AGND; V-; V+; CLK; SA; SD; LPA; LPD; BPA; BPD; HPA/NA; HPD/ND; INVA; INVD

## LTC1068IN
designator IC?
second order, filter building blocks
footprint icv DIP24-300
pins: 1, 2, 3, 4, 5, 6, 7, 8, 9, 10, 11, 12, 13, 14, 15, 16, 17, 18, 19, 20, 21, 22, 23, 24
text: INVB; INVC; HPB/NB; HPC/NC; BPB; BPC; LPB; LPC; SB; SC; AGND; V-; V+; CLK; SA; SD; LPA; LPD; BPA; BPD; HPA/NA; HPD/ND; INVA; INVD

## LTC1402CGN
designator IC?
serial 12-bit, 2.2Msps sampling ADC with shutdown
footprint smd SSOPN/16 (body 4.1 pitch 0.635)
pins: 1 AVDD, 2 AGND1, 3 AIN+, 4 AIN-, 5 VREF, 6 AGND2, 7 GAIN, 8 BIP/'UNI', 9 OGND, 10 DOUT, 11 OVDD, 12 DVDD, 13 DGND, 14 VSS, 15 SCK, 16 CONV

## LTC1734ES6-4.1
designator IC?
lithium-ion linear battery charger
footprint smd SOT-23/6p (body 1.6 wide, pitch 0.95mm)
pins: 1 ISENSE, 2 GND, 3 VCC, 4 PROG, 5 BAT, 6 DRIVE

## LTC1734ES6-4.2
designator IC?
lithium-ion linear battery charger
footprint smd SOT-23/6p (body 1.6 wide, pitch 0.95mm)
pins: 1 ISENSE, 2 GND, 3 VCC, 4 PROG, 5 BAT, 6 DRIVE

## LTC1992CMS8
designator IC?, comment LTC1992CMS8A
fully differential input/output amp
footprint smd MSOP/8
part A pins: 3, 6
part B pins: 1, 2, 4, 5, 7, 8
part A text: V+; VDG; V-
part B text: -; +; VMID; VOCM

## LTC1992HMS8
designator IC?, comment LTC1992HMS8A
fully differential input/output amp
footprint smd MSOP/8
part A pins: 3, 6
part B pins: 1, 2, 4, 5, 7, 8
part A text: V+; VDG; V-
part B text: -; +; VMID; VOCM

## LTC1992IMS8
designator IC?, comment LTC1992IMS8A
fully differential input/output amp
footprint smd MSOP/8
part A pins: 3, 6
part B pins: 1, 2, 4, 5, 7, 8
part A text: V+; VDG; V-
part B text: -; +; VMID; VOCM

## LTC2499CUHFPBF
designator IC?
24-bit 8-/16-channel A/D converter
footprint smd QFN/38 (5x7mm pitch 0.5)
pins: 1 GND, 2 SCL, 3 SDA, 4 GND, 5 NC, 6 GND, 7 COM, 8 CH0, 9 CH1, 10 CH2, 11 CH3, 12 CH4, 13 CH5, 14 CH6, 15 CH7, 16 CH8, 17 CH9, 18 CH10, 19 CH11, 20 CH12, 21 CH13, 22 CH14, 23 CH15, 24 MUXOUTP, 25 ADCINP, 26 ADCINN, 27 MUXOUTN, 28 VCC, 29 REF+, 30 REF-, 31 GND, 32 GND, 33 GND, 34 GND, 35 F0, 36 CA0, 37 CA1, 38 CA2, 39 GND

## LTC4054ES5-4.2
designator IC?
Li-Ion battery charger
footprint smd SOT-23/5p (body 1.6 wide, pitch 0.95mm)
pins: 1, 2, 3, 4, 5
text: VCC; BAT; 'CHRG'; PROG; GND

## LTC4054LES5-4.2TRPBF
designator IC?
Li-Ion Battery Charger
footprint smd SOT-23/5p (body 1.6 wide, pitch 0.95mm)
pins: 1 'CHRG', 2 GND, 3 BAT, 4 VCC, 5 PROG

## LTC4054XES5-4.2
designator IC?
Li-Ion battery charger
footprint smd SOT-23/5p (body 1.6 wide, pitch 0.95mm)
pins: 1, 2, 3, 4, 5
text: VCC; BAT; 'CHRG'; PROG; GND

## LTC4065LEDCTRM
designator IC?
Standalone 750mA Li-Ion Battery Charger
footprint smd QFN/6 (2x2mm p0.50mm)
pins: 1 GND, 2 'CHRG', 3 BAT, 4 VCC, 5 'EN', 6 PROG, 7 GND

## LTC6244HMS8
designator U?, comment LTC6244HMS8A
Op Amp, dual, 50 Mhz
footprint smd MSOP/8
part A pins: 1, 2 -, 3 +, 4 V-, 8 V+
part B pins: 5 +, 6 -, 7 1

## LTC6602CUF
designator IC?
dual matched high frequency bandpass-lowpass filter
footprint smd QFN/24 (4x4mm p0.50mm)
pins: 1 V+IN, 2 V+A, 3 VOCM, 4 RBIAS, 5 CLKCNTL, 6 LPF1, 7 +INB, 8 -INB, 9 LPF0, 10 HPF1, 11 HPF0, 12 -OUTB, 13 +OUTB, 14 GND, 15 CLKIO, 16 V+D, 17 'SER', 18 -OUTA, 19 +OUTA, 20 'MUTE', 21 GAIN0, 22 GAIN1, 23 -INA, 24 +INA, 25 GND

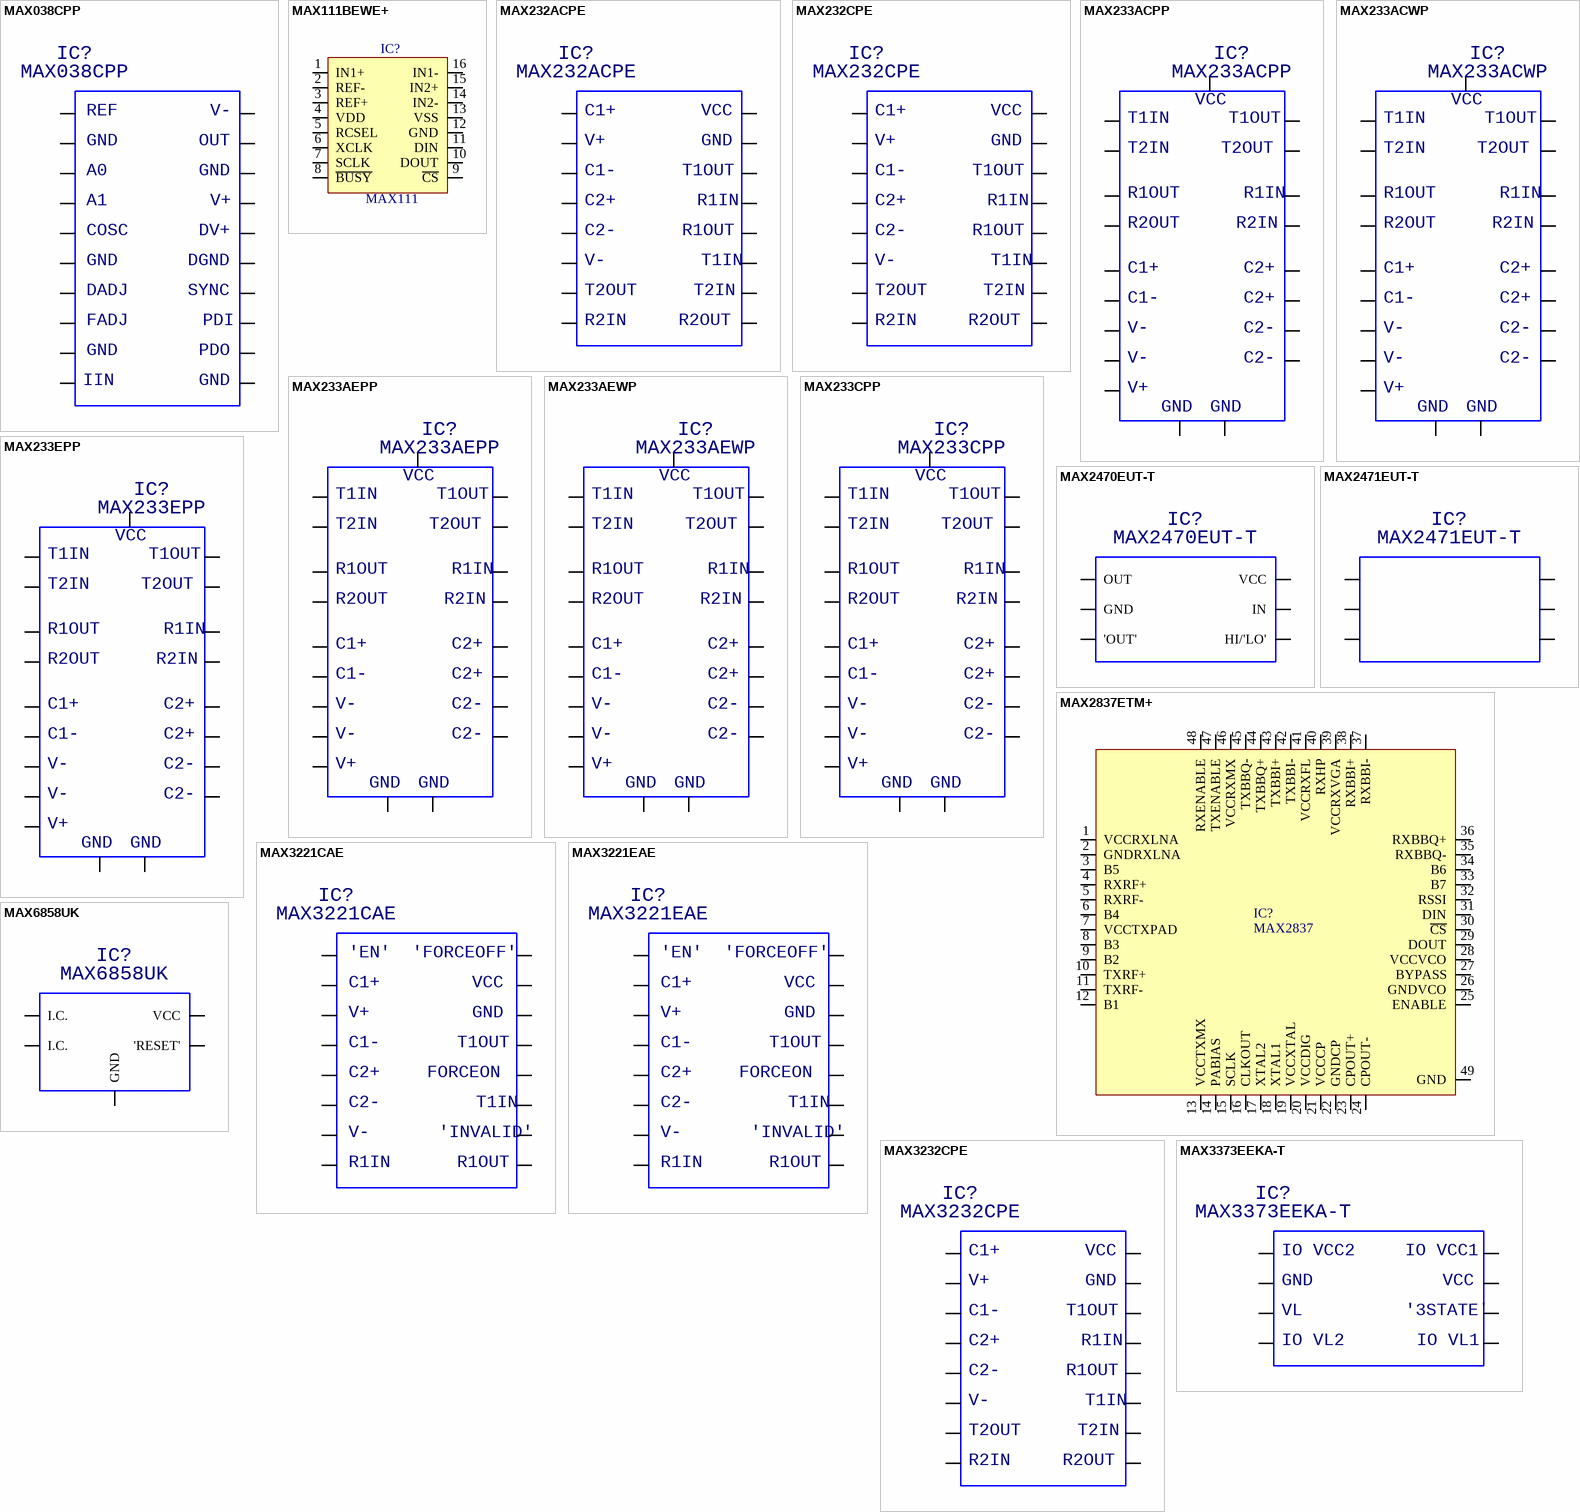
[diagram p12: symbols MAX038CPP to MAX6858UK]

## MAX038CPP
designator IC?
high-frequency waveform generator
footprint icv DIP20-300
pins: 1, 2, 3, 4, 5, 6, 7, 8, 9, 10, 11, 12, 13, 14, 15, 16, 17, 18, 19, 20
text: REF; V-; GND; OUT; A0; A1; V+; COSC; DV+; DGND; DADJ; SYNC; FADJ; PDI; PDO; IIN

## MAX111BEWE+
designator IC?, comment MAX111
Low-Cost, 2-Channel, ±14-Bit Serial ADCs
footprint smd soicn/16
pins: 1 IN1+, 2 REF-, 3 REF+, 4 VDD, 5 RCSEL, 6 XCLK, 7 SCLK, 8 ~{BUSY}, 9 ~{CS}, 10 DOUT, 11 DIN, 12 GND, 13 VSS, 14 IN2-, 15 IN2+, 16 IN1-

## MAX232ACPE
designator IC?
RS-232 driver/receiver
footprint icv DIP16-300
pins: 1, 2, 3, 4, 5, 6, 7, 8, 9, 10, 11, 12, 13, 14, 15, 16
text: C1+; VCC; V+; GND; C1-; T1OUT; C2+; R1IN; C2-; R1OUT; V-; T1IN; T2OUT; T2IN; R2IN; R2OUT

## MAX232CPE
designator IC?
RS-232 driver/receiver
footprint icv DIP16-300
pins: 1, 2, 3, 4, 5, 6, 7, 8, 9, 10, 11, 12, 13, 14, 15, 16
text: C1+; VCC; V+; GND; C1-; T1OUT; C2+; R1IN; C2-; R1OUT; V-; T1IN; T2OUT; T2IN; R2IN; R2OUT

## MAX233ACPP
designator IC?
RS-232 driver/receiver
footprint icv DIP20-300
pins: 1, 2, 3, 4, 5, 6, 7, 8, 9, 10, 11, 12, 13, 14, 15, 16, 17, 18, 19, 20
text: VCC; T1IN; T1OUT; T2IN; T2OUT; R1OUT; R1IN; R2OUT; R2IN; C1+; C2+; C1-; V-; C2-; V+; GND

## MAX233ACWP
designator IC?
RS-232 driver/receiver
footprint smd SOICW/20
pins: 1, 2, 3, 4, 5, 6, 7, 8, 9, 10, 11, 12, 13, 14, 15, 16, 17, 18, 19, 20
text: VCC; T1IN; T1OUT; T2IN; T2OUT; R1OUT; R1IN; R2OUT; R2IN; C1+; C2+; C1-; V-; C2-; V+; GND

## MAX233AEPP
designator IC?
RS-232 driver/receiver
footprint icv DIP20-300
pins: 1, 2, 3, 4, 5, 6, 7, 8, 9, 10, 11, 12, 13, 14, 15, 16, 17, 18, 19, 20
text: VCC; T1IN; T1OUT; T2IN; T2OUT; R1OUT; R1IN; R2OUT; R2IN; C1+; C2+; C1-; V-; C2-; V+; GND

## MAX233AEWP
designator IC?
RS-232 driver/receiver
footprint smd SOICW/20
pins: 1, 2, 3, 4, 5, 6, 7, 8, 9, 10, 11, 12, 13, 14, 15, 16, 17, 18, 19, 20
text: VCC; T1IN; T1OUT; T2IN; T2OUT; R1OUT; R1IN; R2OUT; R2IN; C1+; C2+; C1-; V-; C2-; V+; GND

## MAX233CPP
designator IC?
RS-232 driver/receiver
footprint icv DIP20-300
pins: 1, 2, 3, 4, 5, 6, 7, 8, 9, 10, 11, 12, 13, 14, 15, 16, 17, 18, 19, 20
text: VCC; T1IN; T1OUT; T2IN; T2OUT; R1OUT; R1IN; R2OUT; R2IN; C1+; C2+; C1-; V-; C2-; V+; GND

## MAX233EPP
designator IC?
RS-232 driver/receiver
footprint icv DIP20-300
pins: 1, 2, 3, 4, 5, 6, 7, 8, 9, 10, 11, 12, 13, 14, 15, 16, 17, 18, 19, 20
text: VCC; T1IN; T1OUT; T2IN; T2OUT; R1OUT; R1IN; R2OUT; R2IN; C1+; C2+; C1-; V-; C2-; V+; GND

## MAX2470EUT-T
designator IC?
10MHz to 500MHz VCO Buffer Amplifiers with Differential Outputs
footprint smd SOT-23/6p (body 1.6 wide, pitch 0.95mm)
pins: 1 OUT, 2 GND, 3 'OUT', 4 HI/'LO', 5 IN, 6 VCC

## MAX2471EUT-T
designator IC?
10MHz to 500MHz VCO Buffer Amplifiers with Differential Outputs
footprint smd SOT-23/6p (body 1.6 wide, pitch 0.95mm)
pins: 1 OUT, 2 GND, 3 'OUT', 4 HI/'LO', 5 IN, 6 VCC

## MAX2837ETM+
designator IC?, comment MAX2837
2.3GHz to 2.7GHz Wireless  Broadband RF Transceiver
footprint SMD QFN/48 (6X6MM)
pins: 1 VCCRXLNA, 2 GNDRXLNA, 3 B5, 4 RXRF+, 5 RXRF-, 6 B4, 7 VCCTXPAD, 8 B3, 9 B2, 10 TXRF+, 11 TXRF-, 12 B1, 13 VCCTXMX, 14 PABIAS, 15 SCLK, 16 CLKOUT, 17 XTAL2, 18 XTAL1, 19 VCCXTAL, 20 VCCDIG, 21 VCCCP, 22 GNDCP, 23 CPOUT+, 24 CPOUT-, 25 ENABLE, 26 GNDVCO, 27 BYPASS, 28 VCCVCO, 29 DOUT, 30 ~{CS}, 31 DIN, 32 RSSI, 33 B7, 34 B6, 35 RXBBQ-, 36 RXBBQ+, 37 RXBBI-, 38 RXBBI+, 39 VCCRXVGA, 40 RXHP, 41 VCCRXFL, 42 TXBBI-, 43 TXBBI+, 44 TXBBQ+, 45 TXBBQ-, 46 VCCRXMX, 47 TXENABLE, 48 RXENABLE, 49 GND

## MAX3221CAE
designator IC?
RS-232 driver/receiver
footprint smd SSOP/16 (body 5.3 pitch 0.65)
pins: 1, 2, 3, 4, 5, 6, 7, 8, 9, 10, 11, 12, 13, 14, 15, 16
text: 'EN'; 'FORCEOFF'; C1+; VCC; V+; GND; C1-; T1OUT; C2+; FORCEON; C2-; T1IN; V-; 'INVALID'; R1IN; R1OUT

## MAX3221EAE
designator IC?
RS-232 driver/receiver
footprint smd SSOP/16 (body 5.3 pitch 0.65)
pins: 1, 2, 3, 4, 5, 6, 7, 8, 9, 10, 11, 12, 13, 14, 15, 16
text: 'EN'; 'FORCEOFF'; C1+; VCC; V+; GND; C1-; T1OUT; C2+; FORCEON; C2-; T1IN; V-; 'INVALID'; R1IN; R1OUT

## MAX3232CPE
designator IC?
RS-232 driver/receiver
footprint icv DIP16-300
pins: 1, 2, 3, 4, 5, 6, 7, 8, 9, 10, 11, 12, 13, 14, 15, 16
text: C1+; VCC; V+; GND; C1-; T1OUT; C2+; R1IN; C2-; R1OUT; V-; T1IN; T2OUT; T2IN; R2IN; R2OUT

## MAX3373EEKA-T
designator IC?
dual low-voltage level translator
footprint smd SOT-23/8p (body 1.75 pitch 0.65mm)
pins: 1, 2, 3, 4, 5, 6, 7, 8
text: IO VCC2; IO VCC1; GND; VCC; VL; '3STATE'; IO VL2; IO VL1

## MAX6858UK
designator IC?
nanopower µP supervisory circuit
footprint smd SOT-23/5p (body 1.6 wide, pitch 0.95mm)
pins: 1 I.C., 2 I.C., 3 GND, 4 'RESET', 5 VCC

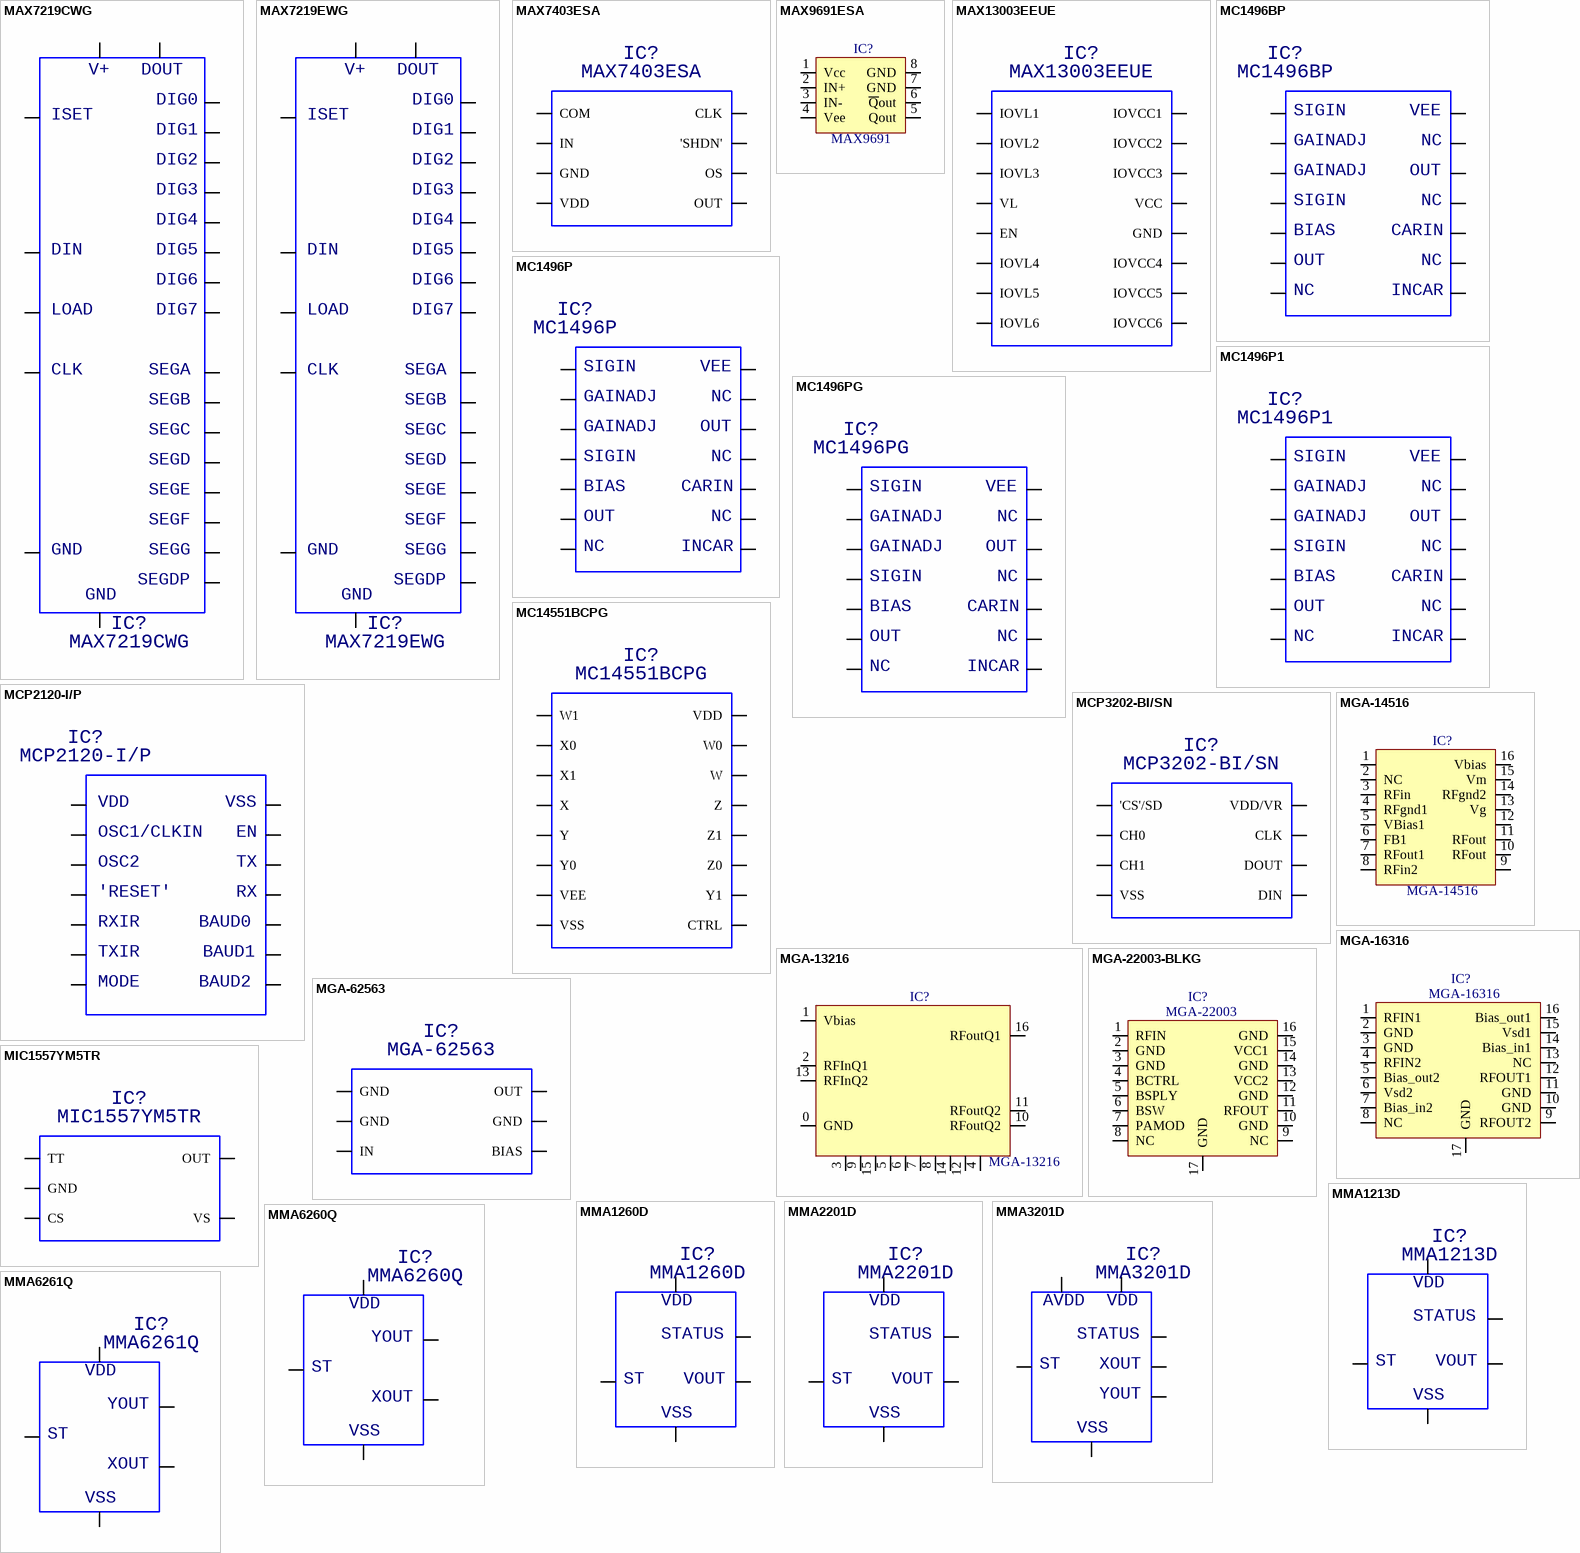
[diagram p13: symbols MAX7219CWG to MMA6261Q]

## MAX7219CWG
designator IC?
8-digit led display driver, seriële interface
footprint smd SOICW/24
pins: 1, 2, 3, 4, 5, 6, 7, 8, 9, 10, 11, 12, 13, 14, 15, 16, 17, 18, 19, 20, 21, 22, 23, 24
text: V+; DOUT; DIG0; ISET; DIG1; DIG2; DIG3; DIG4; DIN; DIG5; DIG6; LOAD; DIG7; CLK; SEGA; SEGB; SEGC; SEGD; SEGE; SEGF; GND; SEGG; SEGDP

## MAX7219EWG
designator IC?
8-digit led display driver, seriële interface
footprint smd SOICW/24
pins: 1, 2, 3, 4, 5, 6, 7, 8, 9, 10, 11, 12, 13, 14, 15, 16, 17, 18, 19, 20, 21, 22, 23, 24
text: V+; DOUT; DIG0; ISET; DIG1; DIG2; DIG3; DIG4; DIN; DIG5; DIG6; LOAD; DIG7; CLK; SEGA; SEGB; SEGC; SEGD; SEGE; SEGF; GND; SEGG; SEGDP

## MAX7403ESA
designator IC?
8th-order lowpass elliptic switched-cap filter
footprint smd SOICN/8
pins: 1 COM, 2 IN, 3 GND, 4 VDD, 5 OUT, 6 OS, 7 'SHDN', 8 CLK

## MAX9691ESA
designator IC?, comment MAX9691
Ultra-fast ECL output comparator
footprint smd soicn/8
pins: 1 Vcc, 2 IN+, 3 IN-, 4 Vee, 5 Qout, 6 ~{Q}out, 7 GND, 8 GND

## MAX13003EEUE
designator IC?
ultra low voltage level translator
footprint smd TSSOP/16 (body 4.4 pitch 0.65)
pins: 1 IOVL1, 2 IOVL2, 3 IOVL3, 4 VL, 5 EN, 6 IOVL4, 7 IOVL5, 8 IOVL6, 9 IOVCC6, 10 IOVCC5, 11 IOVCC4, 12 GND, 13 VCC, 14 IOVCC3, 15 IOVCC2, 16 IOVCC1